# Altium schematic symbol library OpAmp比较器.SchLib: 515 symbols (part 2 of 3)
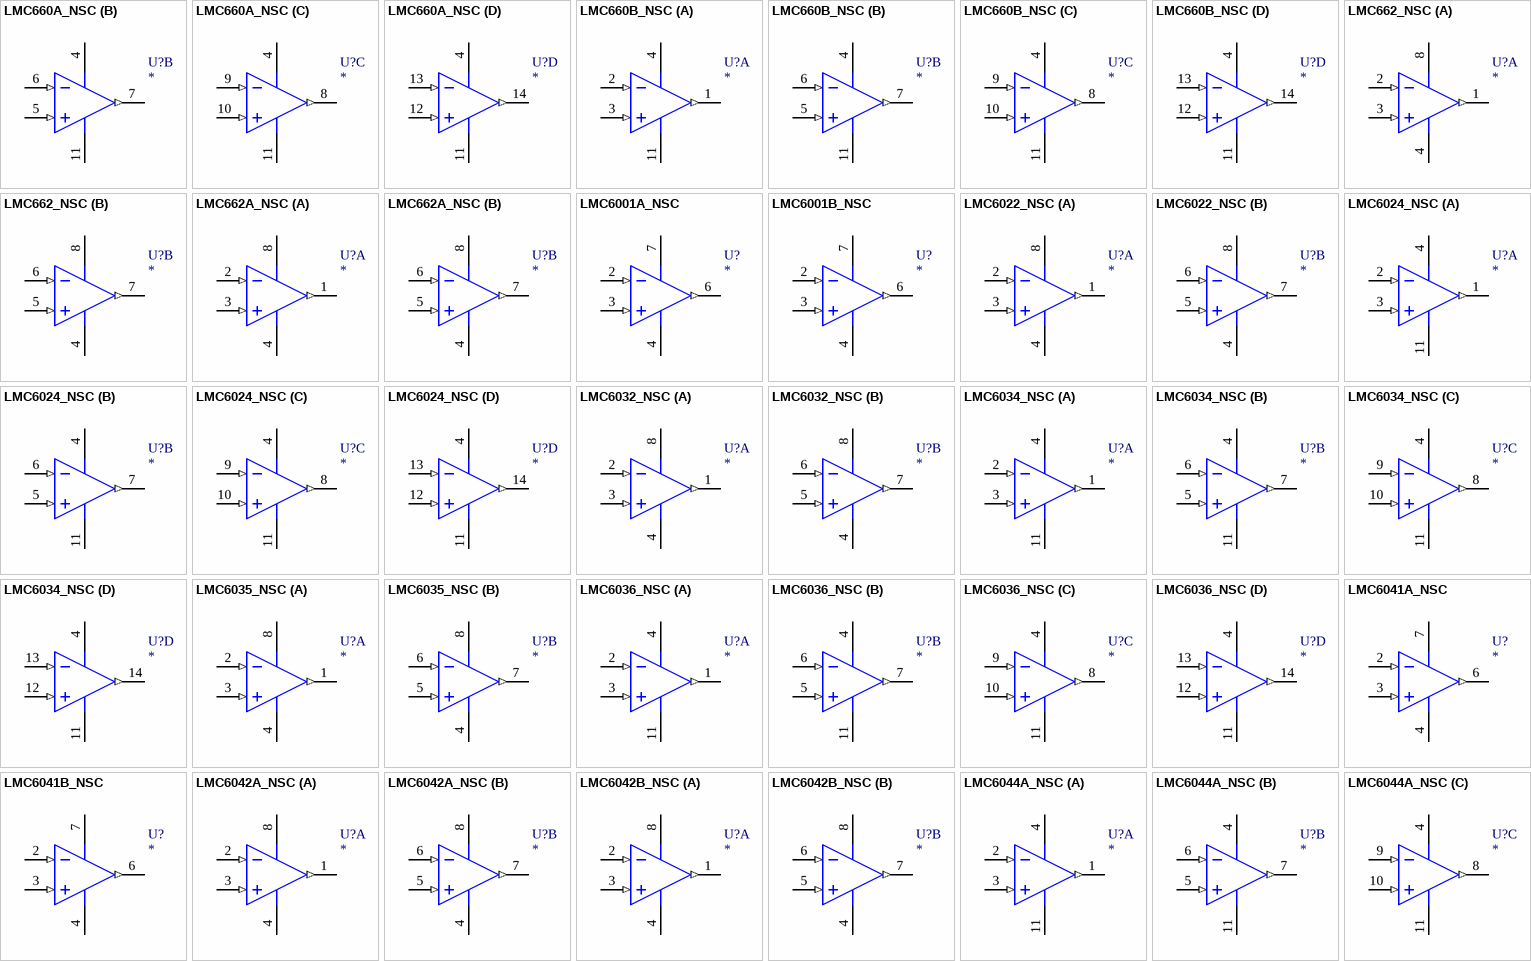
[diagram p24: symbols LMC660A_NSC to LMC6044A_NSC]

## LMC662A_NSC
designator U?
Fast Settling Dual Operational Amplifier
footprint DIP-8
simulation model LMC662A_NSC (SUBCKT)
part A pins: 1 OUT1 (out), 2 IN1- (in), 3 IN1+ (in), 4 V- (power), 8 V+ (power)
part B pins: 4 V- (power), 5 IN2+ (in), 6 IN2- (in), 7 OUT2 (out), 8 V+ (power)

## LMC6001A_NSC
designator U?
Precision CMOS Single Micropower Operational Amplifier; Text Field6: Pins 1, 5 and 8 are N.C.
footprint DIP-8
simulation model LMC6001A_NSC (SUBCKT)
pins: 2 IN- (in), 3 IN+ (in), 4 -VS (power), 6 OUT (out), 7 +VS (power)

## LMC6001B_NSC
designator U?
Precision CMOS Single Micropower Operational Amplifier; Text Field6: Pins 1, 5 and 8 are N.C.
footprint DIP-8
simulation model LMC6001B_NSC (SUBCKT)
pins: 2 IN- (in), 3 IN+ (in), 4 -VS (power), 6 OUT (out), 7 +VS (power)

## LMC6022_NSC
designator U?
Fast Settling Dual Operational Amplifier
footprint DIP-8
simulation model LMC6022_NSC (SUBCKT)
part A pins: 1 OUT1 (out), 2 IN1- (in), 3 IN1+ (in), 4 V- (power), 8 V+ (power)
part B pins: 4 V- (power), 5 IN2+ (in), 6 IN2- (in), 7 OUT2 (out), 8 V+ (power)

## LMC6024_NSC
designator U?
Low Power Quad Operational Amplifier
footprint DIP-14
simulation model LMC6024_NSC (SUBCKT)
part A pins: 1 1 OUT (out), 2 1 IN- (in), 3 1 IN+ (in), 4 VCC (power), 11 VEE (power)
part B pins: 4 VCC (power), 5 2 IN+ (in), 6 2 IN- (in), 7 2 OUT (out), 11 VEE (power)
part C pins: 4 VCC (power), 8 3 OUT (out), 9 3 IN- (in), 10 3 IN+ (in), 11 VEE (power)
part D pins: 4 VCC (power), 11 VEE (power), 12 4 IN+ (in), 13 4 IN- (in), 14 4 OUT (out)

## LMC6032_NSC
designator U?
CMOS Dual Rail-to-Rail Input & Output Operational Amplifier
footprint DIP-8
simulation model LMC6032_NSC (SUBCKT)
part A pins: 1 OUT1 (out), 2 IN-1 (in), 3 IN+1 (in), 4 GND (power), 8 VDD (power)
part B pins: 4 GND (power), 5 IN+2 (in), 6 IN-2 (in), 7 OUT2 (out), 8 VDD (power)

## LMC6034_NSC
designator U?
Low Power Quad Operational Amplifier
footprint DIP-14
simulation model LMC6034_NSC (SUBCKT)
part A pins: 1 1 OUT (out), 2 1 IN- (in), 3 1 IN+ (in), 4 VCC (power), 11 VEE (power)
part B pins: 4 VCC (power), 5 2 IN+ (in), 6 2 IN- (in), 7 2 OUT (out), 11 VEE (power)
part C pins: 4 VCC (power), 8 3 OUT (out), 9 3 IN- (in), 10 3 IN+ (in), 11 VEE (power)
part D pins: 4 VCC (power), 11 VEE (power), 12 4 IN+ (in), 13 4 IN- (in), 14 4 OUT (out)

## LMC6035_NSC
designator U?
Dual Low Power 2.7V Single Supply CMOS Operational Amplifier
simulation model LMC6035_NSC (SUBCKT)
part A pins: 1 OUT (out), 2 IN- (in), 3 IN+ (in), 4 VEE (power), 8 VCC (power)
part B pins: 4 VEE (power), 5 IN+ (in), 6 IN- (in), 7 OUT (out), 8 VCC (power)

## LMC6036_NSC
designator U?
Quad Low Power 2.7V Single Supply CMOS Operational Amplifier
simulation model LMC6036_NSC (SUBCKT)
part A pins: 1 OUT (out), 2 IN- (in), 3 IN+ (in), 4 VCC (power), 11 VEE (power)
part B pins: 4 VCC (power), 5 IN+ (in), 6 IN- (in), 7 OUT (out), 11 VEE (power)
part C pins: 4 VCC (power), 8 OUT (out), 9 IN- (in), 10 IN+ (in), 11 VEE (power)
part D pins: 4 VCC (power), 11 VEE (power), 12 IN+ (in), 13 IN- (in), 14 OUT (out)

## LMC6041A_NSC
designator U?
Low Power Operational Amplifier with Rail-to-Rail Input & Output; Text Field6: Pins 1, 5 and 8 are N.C.
footprint DIP-8
simulation model LMC6041A_NSC (SUBCKT)
pins: 2 IN- (in), 3 IN+ (in), 4 VSS- (power), 6 OUT (out), 7 VSS+ (power)

## LMC6041B_NSC
designator U?
Low Power Operational Amplifier with Rail-to-Rail Input & Output; Text Field6: Pins 1, 5 and 8 are N.C.
footprint DIP-8
simulation model LMC6041B_NSC (SUBCKT)
pins: 2 IN- (in), 3 IN+ (in), 4 VSS- (power), 6 OUT (out), 7 VSS+ (power)

## LMC6042A_NSC
designator U?
Fast Settling Dual Operational Amplifier
footprint DIP-8
simulation model LMC6042A_NSC (SUBCKT)
part A pins: 1 OUT1 (out), 2 IN1- (in), 3 IN1+ (in), 4 V- (power), 8 V+ (power)
part B pins: 4 V- (power), 5 IN2+ (in), 6 IN2- (in), 7 OUT2 (out), 8 V+ (power)

## LMC6042B_NSC
designator U?
Fast Settling Dual Operational Amplifier
footprint DIP-8
simulation model LMC6042B_NSC (SUBCKT)
part A pins: 1 OUT1 (out), 2 IN1- (in), 3 IN1+ (in), 4 V- (power), 8 V+ (power)
part B pins: 4 V- (power), 5 IN2+ (in), 6 IN2- (in), 7 OUT2 (out), 8 V+ (power)

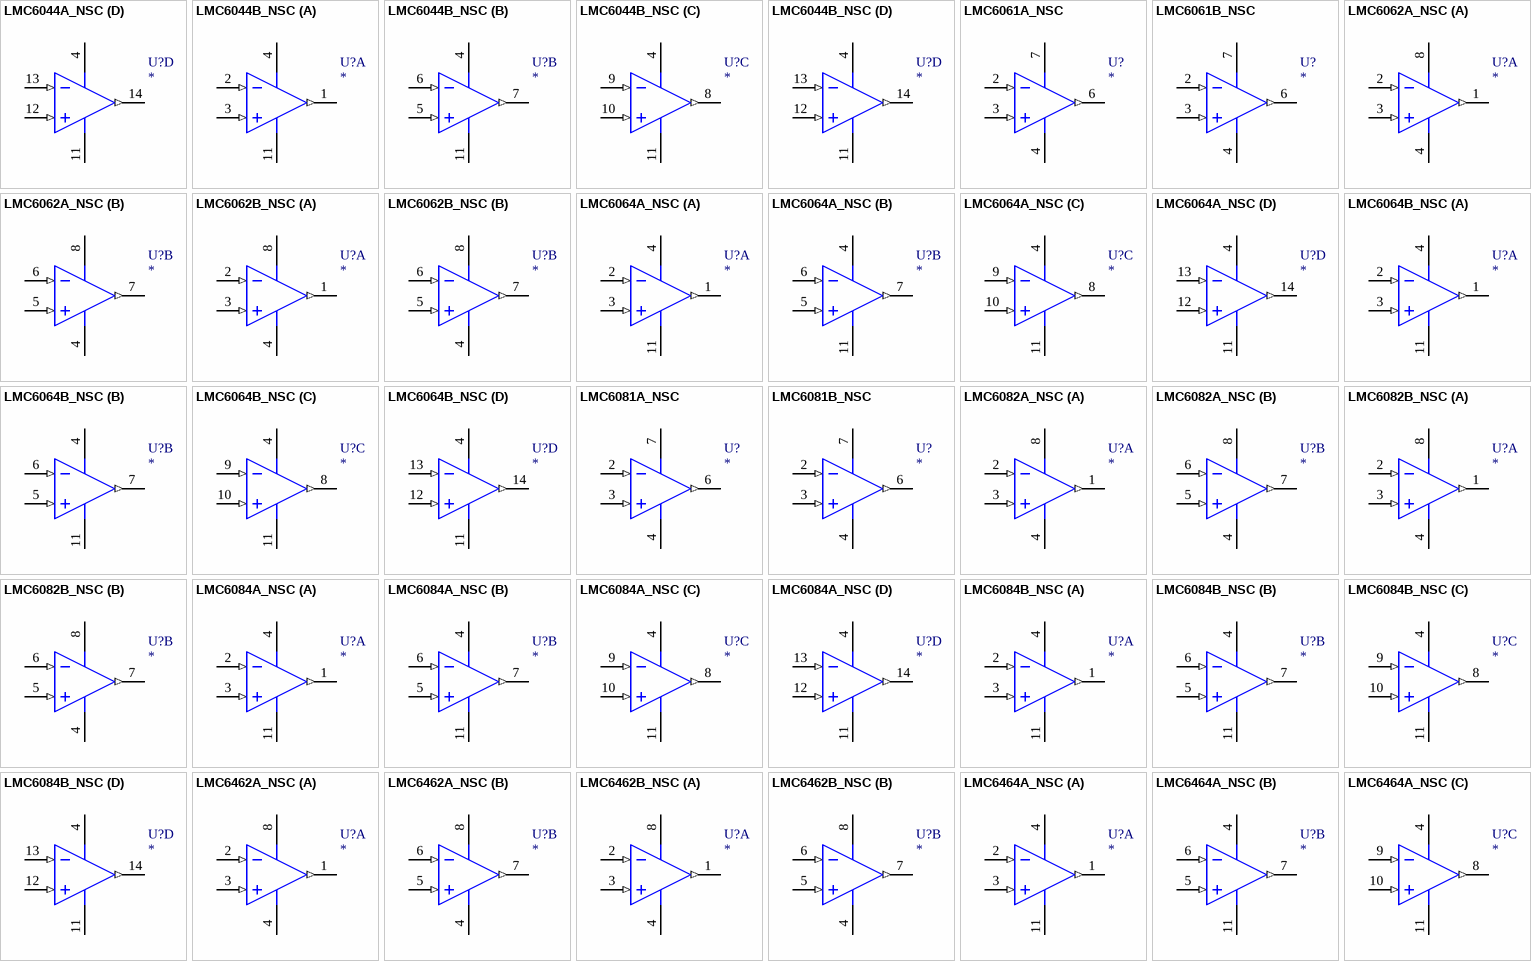
[diagram p8: symbols LMC6044A_NSC to LMC6464A_NSC]

## LMC6044A_NSC
designator U?
Low Power Quad Operational Amplifier
footprint DIP-14
simulation model LMC6044A_NSC (SUBCKT)
part A pins: 1 1 OUT (out), 2 1 IN- (in), 3 1 IN+ (in), 4 VCC (power), 11 VEE (power)
part B pins: 4 VCC (power), 5 2 IN+ (in), 6 2 IN- (in), 7 2 OUT (out), 11 VEE (power)
part C pins: 4 VCC (power), 8 3 OUT (out), 9 3 IN- (in), 10 3 IN+ (in), 11 VEE (power)
part D pins: 4 VCC (power), 11 VEE (power), 12 4 IN+ (in), 13 4 IN- (in), 14 4 OUT (out)

## LMC6044B_NSC
designator U?
Low Power Quad Operational Amplifier
footprint DIP-14
simulation model LMC6044B_NSC (SUBCKT)
part A pins: 1 1 OUT (out), 2 1 IN- (in), 3 1 IN+ (in), 4 VCC (power), 11 VEE (power)
part B pins: 4 VCC (power), 5 2 IN+ (in), 6 2 IN- (in), 7 2 OUT (out), 11 VEE (power)
part C pins: 4 VCC (power), 8 3 OUT (out), 9 3 IN- (in), 10 3 IN+ (in), 11 VEE (power)
part D pins: 4 VCC (power), 11 VEE (power), 12 4 IN+ (in), 13 4 IN- (in), 14 4 OUT (out)

## LMC6061A_NSC
designator U?
Precision CMOS Single Micropower Operational Amplifier; Text Field6: Pins 1, 5 and 8 are N.C.
footprint DIP-8
simulation model LMC6061A_NSC (SUBCKT)
pins: 2 IN- (in), 3 IN+ (in), 4 -VS (power), 6 OUT (out), 7 +VS (power)

## LMC6061B_NSC
designator U?
Precision CMOS Single Micropower Operational Amplifier; Text Field6: Pins 1, 5 and 8 are N.C.
footprint DIP-8
simulation model LMC6061B_NSC (SUBCKT)
pins: 2 IN- (in), 3 IN+ (in), 4 -VS (power), 6 OUT (out), 7 +VS (power)

## LMC6062A_NSC
designator U?
Fast Settling Dual Operational Amplifier
footprint DIP-8
simulation model LMC6062A_NSC (SUBCKT)
part A pins: 1 OUT1 (out), 2 IN1- (in), 3 IN1+ (in), 4 V- (power), 8 V+ (power)
part B pins: 4 V- (power), 5 IN2+ (in), 6 IN2- (in), 7 OUT2 (out), 8 V+ (power)

## LMC6062B_NSC
designator U?
Fast Settling Dual Operational Amplifier
footprint DIP-8
simulation model LMC6062B_NSC (SUBCKT)
part A pins: 1 OUT1 (out), 2 IN1- (in), 3 IN1+ (in), 4 V- (power), 8 V+ (power)
part B pins: 4 V- (power), 5 IN2+ (in), 6 IN2- (in), 7 OUT2 (out), 8 V+ (power)

## LMC6064A_NSC
designator U?
Low Power Quad Operational Amplifier
footprint DIP-14
simulation model LMC6064A_NSC (SUBCKT)
part A pins: 1 1 OUT (out), 2 1 IN- (in), 3 1 IN+ (in), 4 VCC (power), 11 VEE (power)
part B pins: 4 VCC (power), 5 2 IN+ (in), 6 2 IN- (in), 7 2 OUT (out), 11 VEE (power)
part C pins: 4 VCC (power), 8 3 OUT (out), 9 3 IN- (in), 10 3 IN+ (in), 11 VEE (power)
part D pins: 4 VCC (power), 11 VEE (power), 12 4 IN+ (in), 13 4 IN- (in), 14 4 OUT (out)

## LMC6064B_NSC
designator U?
Low Power Quad Operational Amplifier
footprint DIP-14
simulation model LMC6064B_NSC (SUBCKT)
part A pins: 1 1 OUT (out), 2 1 IN- (in), 3 1 IN+ (in), 4 VCC (power), 11 VEE (power)
part B pins: 4 VCC (power), 5 2 IN+ (in), 6 2 IN- (in), 7 2 OUT (out), 11 VEE (power)
part C pins: 4 VCC (power), 8 3 OUT (out), 9 3 IN- (in), 10 3 IN+ (in), 11 VEE (power)
part D pins: 4 VCC (power), 11 VEE (power), 12 4 IN+ (in), 13 4 IN- (in), 14 4 OUT (out)

## LMC6081A_NSC
designator U?
Precision CMOS Single Micropower Operational Amplifier; Text Field6: Pins 1, 5 and 8 are N.C.
footprint DIP-8
simulation model LMC6081A_NSC (SUBCKT)
pins: 2 IN- (in), 3 IN+ (in), 4 -VS (power), 6 OUT (out), 7 +VS (power)

## LMC6081B_NSC
designator U?
Precision CMOS Single Micropower Operational Amplifier; Text Field6: Pins 1, 5 and 8 are N.C.
footprint DIP-8
simulation model LMC6081B_NSC (SUBCKT)
pins: 2 IN- (in), 3 IN+ (in), 4 -VS (power), 6 OUT (out), 7 +VS (power)

## LMC6082A_NSC
designator U?
CMOS Dual Rail-to-Rail Input & Output Operational Amplifier
footprint DIP-8
simulation model LMC6082A_NSC (SUBCKT)
part A pins: 1 OUT1 (out), 2 IN-1 (in), 3 IN+1 (in), 4 GND (power), 8 VDD (power)
part B pins: 4 GND (power), 5 IN+2 (in), 6 IN-2 (in), 7 OUT2 (out), 8 VDD (power)

## LMC6082B_NSC
designator U?
CMOS Dual Rail-to-Rail Input & Output Operational Amplifier
footprint DIP-8
simulation model LMC6082B_NSC (SUBCKT)
part A pins: 1 OUT1 (out), 2 IN-1 (in), 3 IN+1 (in), 4 GND (power), 8 VDD (power)
part B pins: 4 GND (power), 5 IN+2 (in), 6 IN-2 (in), 7 OUT2 (out), 8 VDD (power)

## LMC6084A_NSC
designator U?
Low Power Quad Operational Amplifier
footprint DIP-14
simulation model LMC6084A_NSC (SUBCKT)
part A pins: 1 1 OUT (out), 2 1 IN- (in), 3 1 IN+ (in), 4 VCC (power), 11 VEE (power)
part B pins: 4 VCC (power), 5 2 IN+ (in), 6 2 IN- (in), 7 2 OUT (out), 11 VEE (power)
part C pins: 4 VCC (power), 8 3 OUT (out), 9 3 IN- (in), 10 3 IN+ (in), 11 VEE (power)
part D pins: 4 VCC (power), 11 VEE (power), 12 4 IN+ (in), 13 4 IN- (in), 14 4 OUT (out)

## LMC6084B_NSC
designator U?
Low Power Quad Operational Amplifier
footprint DIP-14
simulation model LMC6084B_NSC (SUBCKT)
part A pins: 1 1 OUT (out), 2 1 IN- (in), 3 1 IN+ (in), 4 VCC (power), 11 VEE (power)
part B pins: 4 VCC (power), 5 2 IN+ (in), 6 2 IN- (in), 7 2 OUT (out), 11 VEE (power)
part C pins: 4 VCC (power), 8 3 OUT (out), 9 3 IN- (in), 10 3 IN+ (in), 11 VEE (power)
part D pins: 4 VCC (power), 11 VEE (power), 12 4 IN+ (in), 13 4 IN- (in), 14 4 OUT (out)

## LMC6462A_NSC
designator U?
Fast Settling Dual Operational Amplifier
footprint DIP-8
simulation model LMC6462A_NSC (SUBCKT)
part A pins: 1 OUT1 (out), 2 IN1- (in), 3 IN1+ (in), 4 V- (power), 8 V+ (power)
part B pins: 4 V- (power), 5 IN2+ (in), 6 IN2- (in), 7 OUT2 (out), 8 V+ (power)

## LMC6462B_NSC
designator U?
Fast Settling Dual Operational Amplifier
footprint DIP-8
simulation model LMC6462B_NSC (SUBCKT)
part A pins: 1 OUT1 (out), 2 IN1- (in), 3 IN1+ (in), 4 V- (power), 8 V+ (power)
part B pins: 4 V- (power), 5 IN2+ (in), 6 IN2- (in), 7 OUT2 (out), 8 V+ (power)

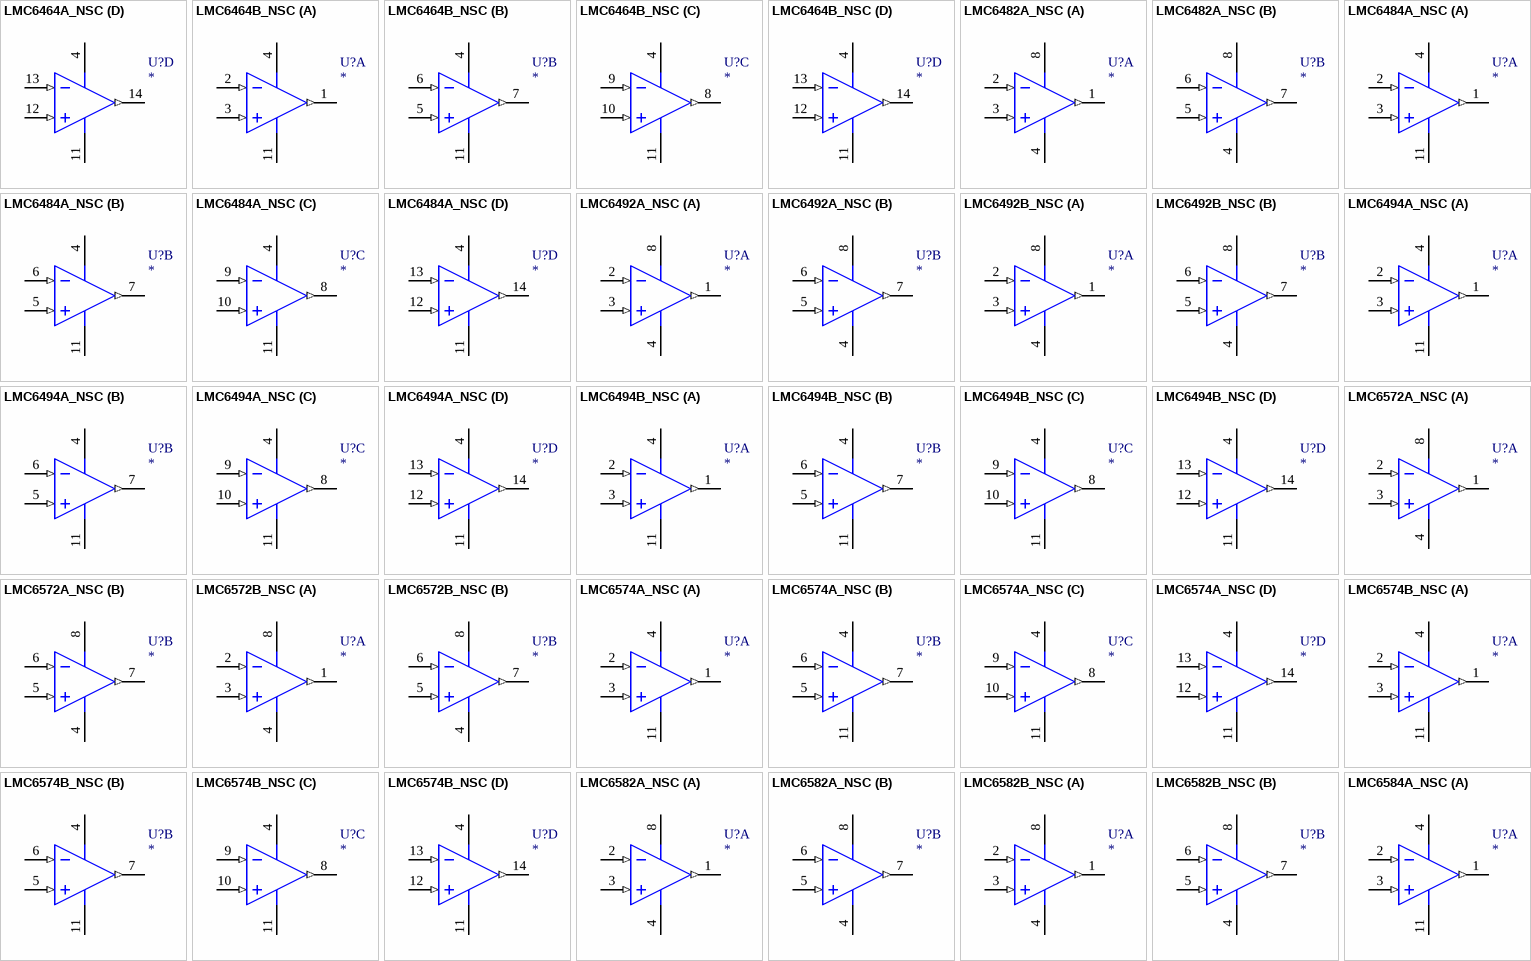
[diagram p9: symbols LMC6464A_NSC to LMC6584A_NSC]

## LMC6464A_NSC
designator U?
Low Power Quad Operational Amplifier
footprint DIP-14
simulation model LMC6464A_NSC (SUBCKT)
part A pins: 1 1 OUT (out), 2 1 IN- (in), 3 1 IN+ (in), 4 VCC (power), 11 VEE (power)
part B pins: 4 VCC (power), 5 2 IN+ (in), 6 2 IN- (in), 7 2 OUT (out), 11 VEE (power)
part C pins: 4 VCC (power), 8 3 OUT (out), 9 3 IN- (in), 10 3 IN+ (in), 11 VEE (power)
part D pins: 4 VCC (power), 11 VEE (power), 12 4 IN+ (in), 13 4 IN- (in), 14 4 OUT (out)

## LMC6464B_NSC
designator U?
Low Power Quad Operational Amplifier
footprint DIP-14
simulation model LMC6464B_NSC (SUBCKT)
part A pins: 1 1 OUT (out), 2 1 IN- (in), 3 1 IN+ (in), 4 VCC (power), 11 VEE (power)
part B pins: 4 VCC (power), 5 2 IN+ (in), 6 2 IN- (in), 7 2 OUT (out), 11 VEE (power)
part C pins: 4 VCC (power), 8 3 OUT (out), 9 3 IN- (in), 10 3 IN+ (in), 11 VEE (power)
part D pins: 4 VCC (power), 11 VEE (power), 12 4 IN+ (in), 13 4 IN- (in), 14 4 OUT (out)

## LMC6482A_NSC
designator U?
CMOS Dual Rail-to-Rail Input & Output Operational Amplifier
footprint DIP-8
simulation model LMC6482A_NSC (SUBCKT)
part A pins: 1 OUT1 (out), 2 IN-1 (in), 3 IN+1 (in), 4 GND (power), 8 VDD (power)
part B pins: 4 GND (power), 5 IN+2 (in), 6 IN-2 (in), 7 OUT2 (out), 8 VDD (power)

## LMC6484A_NSC
designator U?
Low Power Quad Operational Amplifier
footprint DIP-14
simulation model LMC6484A_NSC (SUBCKT)
part A pins: 1 1 OUT (out), 2 1 IN- (in), 3 1 IN+ (in), 4 VCC (power), 11 VEE (power)
part B pins: 4 VCC (power), 5 2 IN+ (in), 6 2 IN- (in), 7 2 OUT (out), 11 VEE (power)
part C pins: 4 VCC (power), 8 3 OUT (out), 9 3 IN- (in), 10 3 IN+ (in), 11 VEE (power)
part D pins: 4 VCC (power), 11 VEE (power), 12 4 IN+ (in), 13 4 IN- (in), 14 4 OUT (out)

## LMC6492A_NSC
designator U?
CMOS Dual Rail-to-Rail Input & Output Operational Amplifier
footprint DIP-8
simulation model LMC6492A_NSC (SUBCKT)
part A pins: 1 OUT1 (out), 2 IN-1 (in), 3 IN+1 (in), 4 GND (power), 8 VDD (power)
part B pins: 4 GND (power), 5 IN+2 (in), 6 IN-2 (in), 7 OUT2 (out), 8 VDD (power)

## LMC6492B_NSC
designator U?
CMOS Dual Rail-to-Rail Input & Output Operational Amplifier
footprint DIP-8
simulation model LMC6492B_NSC (SUBCKT)
part A pins: 1 OUT1 (out), 2 IN-1 (in), 3 IN+1 (in), 4 GND (power), 8 VDD (power)
part B pins: 4 GND (power), 5 IN+2 (in), 6 IN-2 (in), 7 OUT2 (out), 8 VDD (power)

## LMC6494A_NSC
designator U?
Low Power Quad Operational Amplifier
footprint DIP-14
simulation model LMC6494A_NSC (SUBCKT)
part A pins: 1 1 OUT (out), 2 1 IN- (in), 3 1 IN+ (in), 4 VCC (power), 11 VEE (power)
part B pins: 4 VCC (power), 5 2 IN+ (in), 6 2 IN- (in), 7 2 OUT (out), 11 VEE (power)
part C pins: 4 VCC (power), 8 3 OUT (out), 9 3 IN- (in), 10 3 IN+ (in), 11 VEE (power)
part D pins: 4 VCC (power), 11 VEE (power), 12 4 IN+ (in), 13 4 IN- (in), 14 4 OUT (out)

## LMC6494B_NSC
designator U?
Low Power Quad Operational Amplifier
footprint DIP-14
simulation model LMC6494B_NSC (SUBCKT)
part A pins: 1 1 OUT (out), 2 1 IN- (in), 3 1 IN+ (in), 4 VCC (power), 11 VEE (power)
part B pins: 4 VCC (power), 5 2 IN+ (in), 6 2 IN- (in), 7 2 OUT (out), 11 VEE (power)
part C pins: 4 VCC (power), 8 3 OUT (out), 9 3 IN- (in), 10 3 IN+ (in), 11 VEE (power)
part D pins: 4 VCC (power), 11 VEE (power), 12 4 IN+ (in), 13 4 IN- (in), 14 4 OUT (out)

## LMC6572A_NSC
designator U?
Fast Settling Dual Operational Amplifier
footprint DIP-8
simulation model LMC6572A_NSC (SUBCKT)
part A pins: 1 OUT1 (out), 2 IN1- (in), 3 IN1+ (in), 4 V- (power), 8 V+ (power)
part B pins: 4 V- (power), 5 IN2+ (in), 6 IN2- (in), 7 OUT2 (out), 8 V+ (power)

## LMC6572B_NSC
designator U?
Fast Settling Dual Operational Amplifier
footprint DIP-8
simulation model LMC6572B_NSC (SUBCKT)
part A pins: 1 OUT1 (out), 2 IN1- (in), 3 IN1+ (in), 4 V- (power), 8 V+ (power)
part B pins: 4 V- (power), 5 IN2+ (in), 6 IN2- (in), 7 OUT2 (out), 8 V+ (power)

## LMC6574A_NSC
designator U?
Low Power Quad Operational Amplifier
footprint DIP-14
simulation model LMC6574A_NSC (SUBCKT)
part A pins: 1 1 OUT (out), 2 1 IN- (in), 3 1 IN+ (in), 4 VCC (power), 11 VEE (power)
part B pins: 4 VCC (power), 5 2 IN+ (in), 6 2 IN- (in), 7 2 OUT (out), 11 VEE (power)
part C pins: 4 VCC (power), 8 3 OUT (out), 9 3 IN- (in), 10 3 IN+ (in), 11 VEE (power)
part D pins: 4 VCC (power), 11 VEE (power), 12 4 IN+ (in), 13 4 IN- (in), 14 4 OUT (out)

## LMC6574B_NSC
designator U?
Low Power Quad Operational Amplifier
footprint DIP-14
simulation model LMC6574B_NSC (SUBCKT)
part A pins: 1 1 OUT (out), 2 1 IN- (in), 3 1 IN+ (in), 4 VCC (power), 11 VEE (power)
part B pins: 4 VCC (power), 5 2 IN+ (in), 6 2 IN- (in), 7 2 OUT (out), 11 VEE (power)
part C pins: 4 VCC (power), 8 3 OUT (out), 9 3 IN- (in), 10 3 IN+ (in), 11 VEE (power)
part D pins: 4 VCC (power), 11 VEE (power), 12 4 IN+ (in), 13 4 IN- (in), 14 4 OUT (out)

## LMC6582A_NSC
designator U?
CMOS Dual Rail-to-Rail Input & Output Operational Amplifier
footprint DIP-8
simulation model LMC6582A_NSC (SUBCKT)
part A pins: 1 OUT1 (out), 2 IN-1 (in), 3 IN+1 (in), 4 GND (power), 8 VDD (power)
part B pins: 4 GND (power), 5 IN+2 (in), 6 IN-2 (in), 7 OUT2 (out), 8 VDD (power)

## LMC6582B_NSC
designator U?
CMOS Dual Rail-to-Rail Input & Output Operational Amplifier
footprint DIP-8
simulation model LMC6582B_NSC (SUBCKT)
part A pins: 1 OUT1 (out), 2 IN-1 (in), 3 IN+1 (in), 4 GND (power), 8 VDD (power)
part B pins: 4 GND (power), 5 IN+2 (in), 6 IN-2 (in), 7 OUT2 (out), 8 VDD (power)

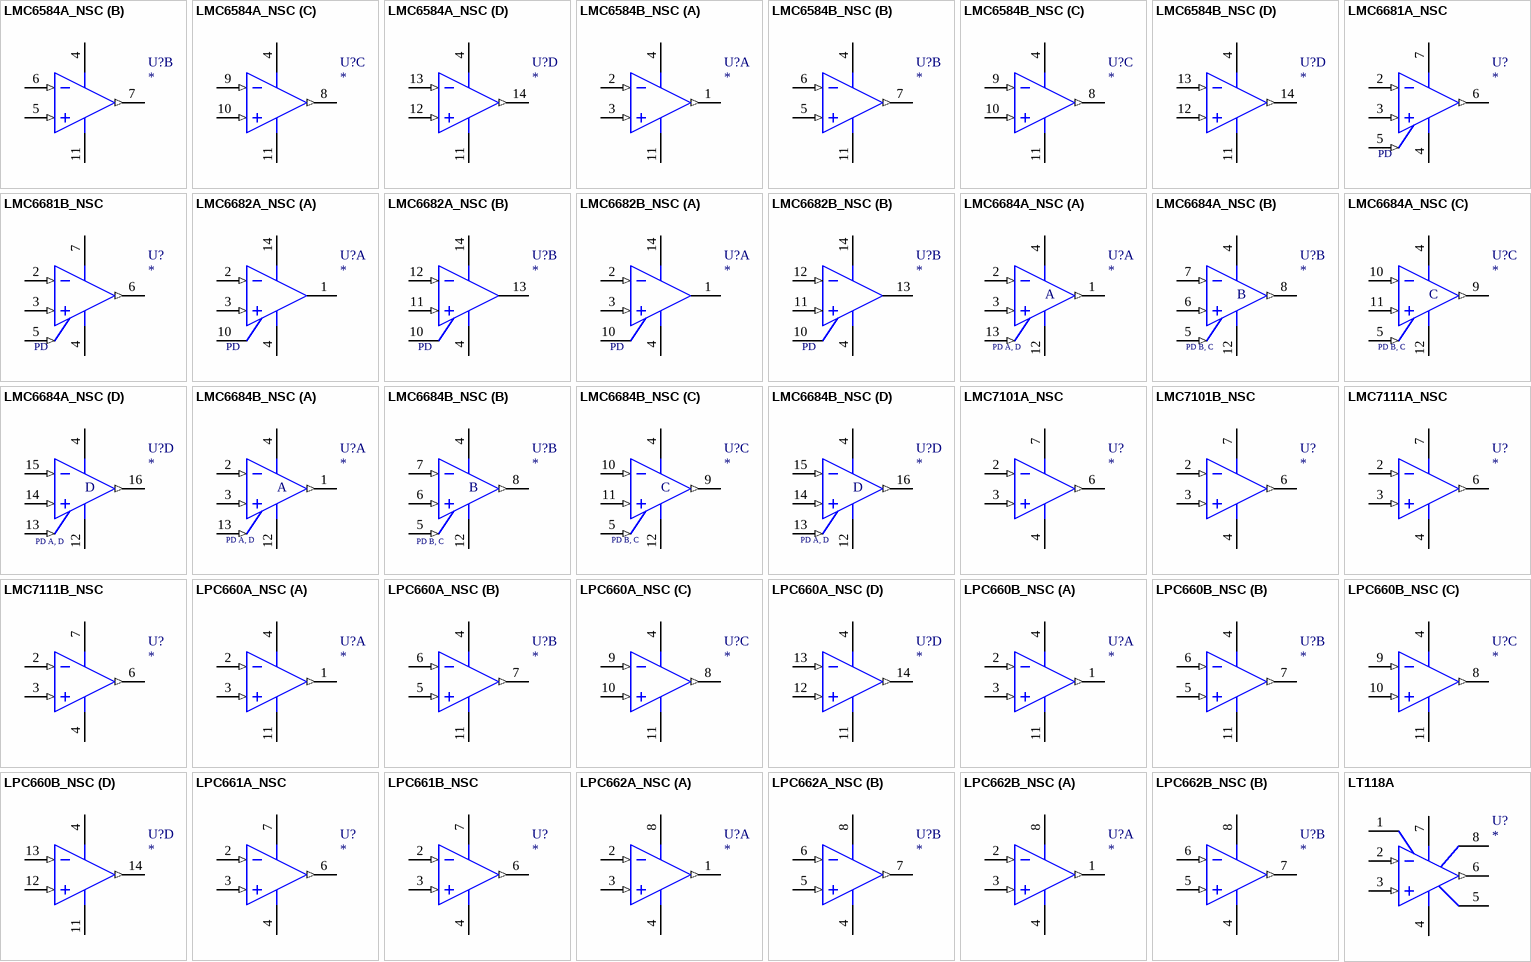
[diagram p10: symbols LMC6584A_NSC to LT118A]

## LMC6584A_NSC
designator U?
Low Power Quad Operational Amplifier
footprint SOP14
simulation model LMC6584A_NSC (SUBCKT)
part A pins: 1 1 OUT (out), 2 1 IN- (in), 3 1 IN+ (in), 4 VCC (power), 11 VEE (power)
part B pins: 4 VCC (power), 5 2 IN+ (in), 6 2 IN- (in), 7 2 OUT (out), 11 VEE (power)
part C pins: 4 VCC (power), 8 3 OUT (out), 9 3 IN- (in), 10 3 IN+ (in), 11 VEE (power)
part D pins: 4 VCC (power), 11 VEE (power), 12 4 IN+ (in), 13 4 IN- (in), 14 4 OUT (out)

## LMC6584B_NSC
designator U?
Low Power Quad Operational Amplifier
footprint SOP14
simulation model LMC6584B_NSC (SUBCKT)
part A pins: 1 1 OUT (out), 2 1 IN- (in), 3 1 IN+ (in), 4 VCC (power), 11 VEE (power)
part B pins: 4 VCC (power), 5 2 IN+ (in), 6 2 IN- (in), 7 2 OUT (out), 11 VEE (power)
part C pins: 4 VCC (power), 8 3 OUT (out), 9 3 IN- (in), 10 3 IN+ (in), 11 VEE (power)
part D pins: 4 VCC (power), 11 VEE (power), 12 4 IN+ (in), 13 4 IN- (in), 14 4 OUT (out)

## LMC6681A_NSC
designator U?
Single Low Voltage, Rail-to-Rail Input & Output CMOS Amplifier with PowerDown; Text Field6: Pins 1 and 8 are N.C.
footprint DIP-8
simulation model LMC6681A_NSC (SUBCKT)
pins: 2 -IN (in), 3 +IN (in), 4 V- (power), 5 PD (in), 6 OUT (out), 7 V+ (power)

## LMC6681B_NSC
designator U?
Single Low Voltage, Rail-to-Rail Input & Output CMOS Amplifier with PowerDown; Text Field6: Pins 1 and 8 are N.C.
footprint DIP-8
simulation model LMC6681B_NSC (SUBCKT)
pins: 2 -IN (in), 3 +IN (in), 4 V- (power), 5 PD (in), 6 OUT (out), 7 V+ (power)

## LMC6682A_NSC
designator U?
Dual Low Voltage, Rail-to-Rail Input & Output CMOS Amplifier with PowerDown; Text Field6: Pins 5, 6, 7, 8 and 9 are N.C.
footprint DIP-14
simulation model LMC6682A_NSC (SUBCKT)
part A pins: 1 OUTA (hiz), 2 IN A- (in), 3 IN A+ (in), 4 V- (power), 10 PD, 14 V+ (power)
part B pins: 4 V- (power), 10 PD, 11 IN B+ (in), 12 IN B- (in), 13 OUTB (hiz), 14 V+ (power)

## LMC6682B_NSC
designator U?
Dual Low Voltage, Rail-to-Rail Input & Output CMOS Amplifier with PowerDown; Text Field6: Pins 5, 6, 7, 8 and 9 are N.C.
footprint DIP-14
simulation model LMC6682B_NSC (SUBCKT)
part A pins: 1 OUTA (hiz), 2 IN A- (in), 3 IN A+ (in), 4 V- (power), 10 PD, 14 V+ (power)
part B pins: 4 V- (power), 10 PD, 11 IN B+ (in), 12 IN B- (in), 13 OUTB (hiz), 14 V+ (power)

## LMC6684A_NSC
designator U?
Quad Low Voltage, Rail-to-Rail Input and Output CMOS Amplifier with PowerDown
footprint DIP-16
simulation model LMC6684A_NSC (SUBCKT)
part A pins: 1 OUT A (out), 2 IN A- (in), 3 IN A+ (in), 4 V+ (power), 12 V- (power), 13 PDA (in)
part B pins: 4 V+ (power), 5 PDB (in), 6 IN B+ (in), 7 IN B- (in), 8 OUT B (out), 12 V- (power)
part C pins: 4 V+ (power), 5 PDB (in), 9 OUT C (out), 10 IN C- (in), 11 IN C+ (in), 12 V- (power)
part D pins: 4 V+ (power), 12 V- (power), 13 PDA (in), 14 IN D+ (in), 15 IN D- (in), 16 OUT D (out)
part A text: A; PD A, D
part B text: B; PD B, C
part C text: C; PD B, C
part D text: D; PD A, D

## LMC6684B_NSC
designator U?
Quad Low Voltage, Rail-to-Rail Input and Output CMOS Amplifier with PowerDown
footprint DIP-16
simulation model LMC6684B_NSC (SUBCKT)
part A pins: 1 OUT A (out), 2 IN A- (in), 3 IN A+ (in), 4 V+ (power), 12 V- (power), 13 PDA (in)
part B pins: 4 V+ (power), 5 PDB (in), 6 IN B+ (in), 7 IN B- (in), 8 OUT B (out), 12 V- (power)
part C pins: 4 V+ (power), 5 PDB (in), 9 OUT C (out), 10 IN C- (in), 11 IN C+ (in), 12 V- (power)
part D pins: 4 V+ (power), 12 V- (power), 13 PDA (in), 14 IN D+ (in), 15 IN D- (in), 16 OUT D (out)
part A text: A; PD A, D
part B text: B; PD B, C
part C text: C; PD B, C
part D text: D; PD A, D

## LMC7101A_NSC
designator U?
Low Power Operational Amplifier with Rail-to-Rail Input & Output; Text Field6: Pins 1, 5 and 8 are N.C.
footprint DIP-8
simulation model LMC7101A_NSC (SUBCKT)
pins: 2 IN- (in), 3 IN+ (in), 4 VSS- (power), 6 OUT (out), 7 VSS+ (power)

## LMC7101B_NSC
designator U?
Low Power Operational Amplifier with Rail-to-Rail Input & Output; Text Field6: Pins 1, 5 and 8 are N.C.
footprint DIP-8
simulation model LMC7101B_NSC (SUBCKT)
pins: 2 IN- (in), 3 IN+ (in), 4 VSS- (power), 6 OUT (out), 7 VSS+ (power)

## LMC7111A_NSC
designator U?
Precision CMOS Single Micropower Operational Amplifier; Text Field6: Pins 1, 5 and 8 are N.C.
footprint DIP-8
simulation model LMC7111A_NSC (SUBCKT)
pins: 2 IN- (in), 3 IN+ (in), 4 -VS (power), 6 OUT (out), 7 +VS (power)

## LMC7111B_NSC
designator U?
Precision CMOS Single Micropower Operational Amplifier; Text Field6: Pins 1, 5 and 8 are N.C.
footprint DIP-8
simulation model LMC7111B_NSC (SUBCKT)
pins: 2 IN- (in), 3 IN+ (in), 4 -VS (power), 6 OUT (out), 7 +VS (power)

## LPC660A_NSC
designator U?
Low Power Quad Operational Amplifier
footprint DIP-14
simulation model LPC660A_NSC (SUBCKT)
part A pins: 1 1 OUT (out), 2 1 IN- (in), 3 1 IN+ (in), 4 VCC (power), 11 VEE (power)
part B pins: 4 VCC (power), 5 2 IN+ (in), 6 2 IN- (in), 7 2 OUT (out), 11 VEE (power)
part C pins: 4 VCC (power), 8 3 OUT (out), 9 3 IN- (in), 10 3 IN+ (in), 11 VEE (power)
part D pins: 4 VCC (power), 11 VEE (power), 12 4 IN+ (in), 13 4 IN- (in), 14 4 OUT (out)

## LPC660B_NSC
designator U?
Low Power Quad Operational Amplifier
footprint DIP-14
simulation model LPC660B_NSC (SUBCKT)
part A pins: 1 1 OUT (out), 2 1 IN- (in), 3 1 IN+ (in), 4 VCC (power), 11 VEE (power)
part B pins: 4 VCC (power), 5 2 IN+ (in), 6 2 IN- (in), 7 2 OUT (out), 11 VEE (power)
part C pins: 4 VCC (power), 8 3 OUT (out), 9 3 IN- (in), 10 3 IN+ (in), 11 VEE (power)
part D pins: 4 VCC (power), 11 VEE (power), 12 4 IN+ (in), 13 4 IN- (in), 14 4 OUT (out)

## LPC661A_NSC
designator U?
Low Power Operational Amplifier with Rail-to-Rail Input & Output; Text Field6: Pins 1, 5 and 8 are N.C.
footprint DIP-8
simulation model LPC661A_NSC (SUBCKT)
pins: 2 IN- (in), 3 IN+ (in), 4 VSS- (power), 6 OUT (out), 7 VSS+ (power)

## LPC661B_NSC
designator U?
Low Power Operational Amplifier with Rail-to-Rail Input & Output; Text Field6: Pins 1, 5 and 8 are N.C.
footprint DIP-8
simulation model LPC661B_NSC (SUBCKT)
pins: 2 IN- (in), 3 IN+ (in), 4 VSS- (power), 6 OUT (out), 7 VSS+ (power)

## LPC662A_NSC
designator U?
Fast Settling Dual Operational Amplifier
footprint DIP-8
simulation model LPC662A_NSC (SUBCKT)
part A pins: 1 OUT1 (out), 2 IN1- (in), 3 IN1+ (in), 4 V- (power), 8 V+ (power)
part B pins: 4 V- (power), 5 IN2+ (in), 6 IN2- (in), 7 OUT2 (out), 8 V+ (power)

## LPC662B_NSC
designator U?
Fast Settling Dual Operational Amplifier
footprint DIP-8
simulation model LPC662B_NSC (SUBCKT)
part A pins: 1 OUT1 (out), 2 IN1- (in), 3 IN1+ (in), 4 V- (power), 8 V+ (power)
part B pins: 4 V- (power), 5 IN2+ (in), 6 IN2- (in), 7 OUT2 (out), 8 V+ (power)

## LT118A
designator U?
High Speed Operational Amplifier
simulation model LT118A (SUBCKT)
pins: 1 COMP 1, 2 -IN (in), 3 +IN (in), 4 V- (power), 5 COMP 3, 6 OUT (out), 7 V+ (power), 8 COMP 2

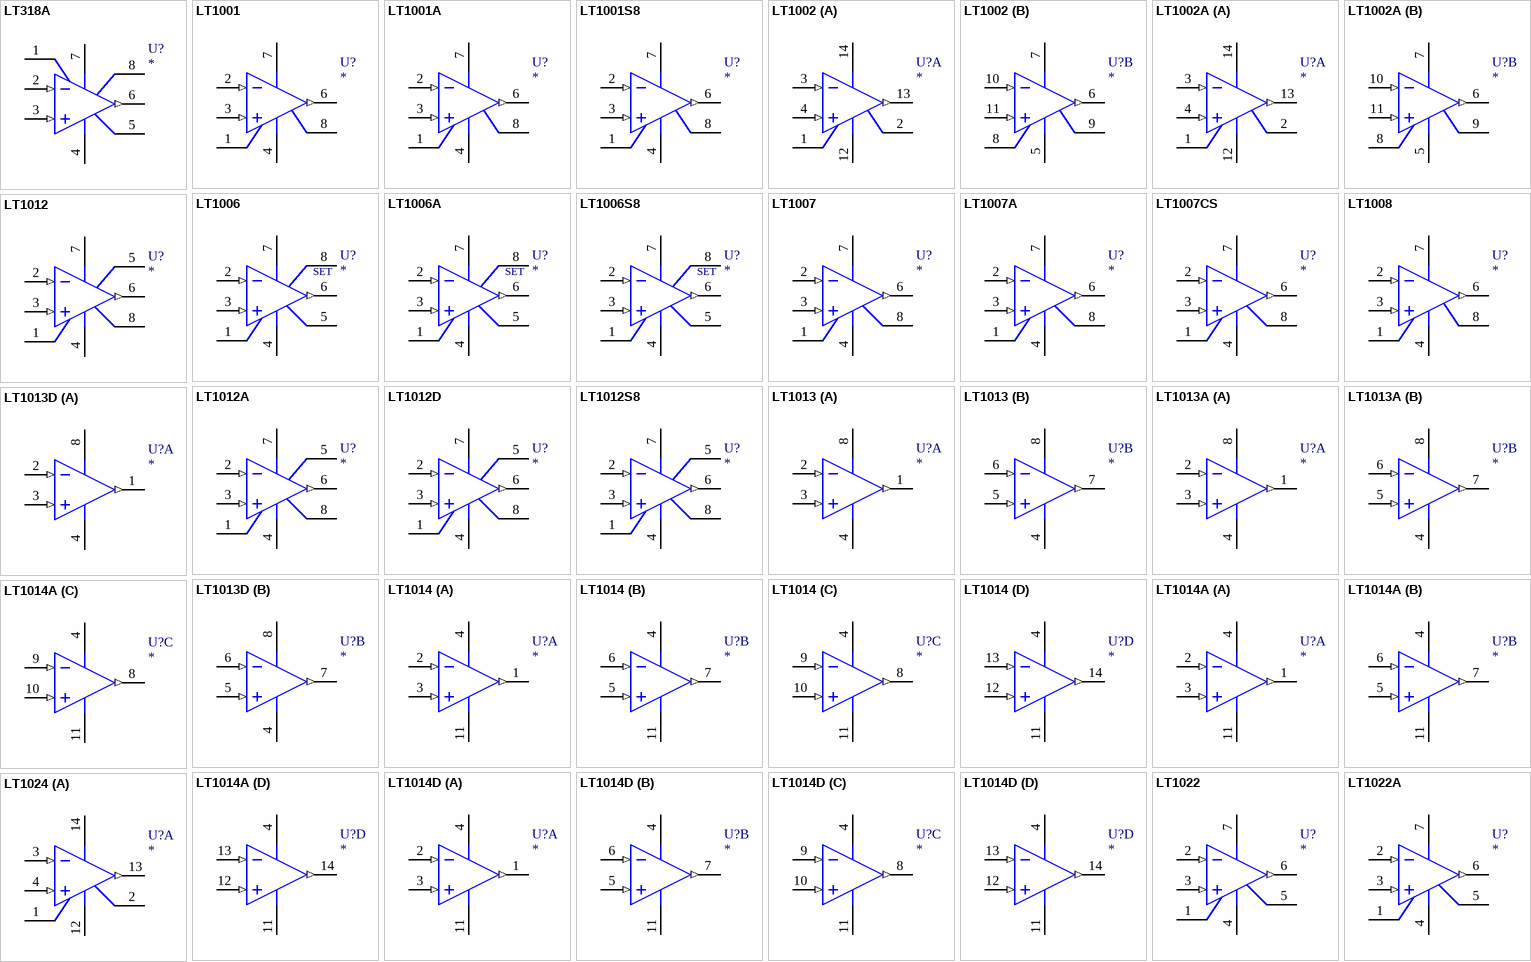
[diagram p11: symbols LT318A to LT1024]

## LT318A
designator U?
High Speed Operational Amplifier
simulation model LT318A (SUBCKT)
pins: 1 COMP 1, 2 -IN (in), 3 +IN (in), 4 V- (power), 5 COMP 3, 6 OUT (out), 7 V+ (power), 8 COMP 2

## LT1001
designator U?
Precision Operational Amplifier
simulation model LT1001 (SUBCKT)
pins: 1 TRIM, 2 -IN (in), 3 +IN (in), 4 V- (power), 6 OUT (out), 7 V+ (power), 8 TRIM

## LT1001A
designator U?
Precision Operational Amplifier
simulation model LT1001A (SUBCKT)
pins: 1 TRIM, 2 -IN (in), 3 +IN (in), 4 V- (power), 6 OUT (out), 7 V+ (power), 8 TRIM

## LT1001S8
designator U?
Precision Operational Amplifier
simulation model LT1001S8 (SUBCKT)
pins: 1 TRIM, 2 -IN (in), 3 +IN (in), 4 V- (power), 6 OUT (out), 7 V+ (power), 8 TRIM

## LT1002
designator U?
Dual, Matched Precision Operational Amplifier
simulation model LT1002 (SUBCKT)
part A pins: 1 NULL(A), 2 NULL(A), 3 -IN(A) (in), 4 +IN(A) (in), 12 V-(A) (power), 13 OUT(A) (out), 14 V+(A) (power)
part B pins: 5 V-(B) (power), 6 OUT(B) (out), 7 V+(B) (power), 8 NULL(B), 9 NULL(B), 10 -IN(B) (in), 11 +IN(B) (in)

## LT1002A
designator U?
Dual, Matched Precision Operational Amplifier
simulation model LT1002A (SUBCKT)
part A pins: 1 NULL(A), 2 NULL(A), 3 -IN(A) (in), 4 +IN(A) (in), 12 V-(A) (power), 13 OUT(A) (out), 14 V+(A) (power)
part B pins: 5 V-(B) (power), 6 OUT(B) (out), 7 V+(B) (power), 8 NULL(B), 9 NULL(B), 10 -IN(B) (in), 11 +IN(B) (in)

## LT1006
designator U?
Precision, Single Supply Operational Amplifier
simulation model LT1006 (SUBCKT)
pins: 1 TRIM, 2 -IN (in), 3 +IN (in), 4 V- (power), 5 TRIM, 6 OUT (out), 7 V+ (power), 8 SET

## LT1006A
designator U?
Precision, Single Supply Operational Amplifier
simulation model LT1006A (SUBCKT)
pins: 1 TRIM, 2 -IN (in), 3 +IN (in), 4 V- (power), 5 TRIM, 6 OUT (out), 7 V+ (power), 8 SET

## LT1006S8
designator U?
Precision, Single Supply Operational Amplifier
simulation model LT1006S8 (SUBCKT)
pins: 1 TRIM, 2 -IN (in), 3 +IN (in), 4 V- (power), 5 TRIM, 6 OUT (out), 7 V+ (power), 8 SET

## LT1007
designator U?
Low Noise, High Speed Precision Operational Amplifier
simulation model LT1007 (SUBCKT)
pins: 1 TRIM, 2 -IN (in), 3 +IN (in), 4 V- (power), 6 OUT (out), 7 V+ (power), 8 TRIM

## LT1007A
designator U?
Low Noise, High Speed Precision Operational Amplifier
simulation model LT1007A (SUBCKT)
pins: 1 TRIM, 2 -IN (in), 3 +IN (in), 4 V- (power), 6 OUT (out), 7 V+ (power), 8 TRIM

## LT1007CS
designator U?
Low Noise, High Speed Precision Operational Amplifier
simulation model LT1007CS (SUBCKT)
pins: 1 TRIM, 2 -IN (in), 3 +IN (in), 4 V- (power), 6 OUT (out), 7 V+ (power), 8 TRIM

## LT1008
designator U?
Picoamp Input Current, Microvolt Offset, Low Noise Op Amp; Text Field6: Pin 5 is not connected
simulation model LT1008 (SUBCKT)
pins: 1 COMP1, 2 IN- (in), 3 IN+ (in), 4 VEE (power), 6 OUT (out), 7 VCC (power), 8 COMP2

## LT1012
designator U?
Picoamp Input Current, Microvolt Offset, Low Noise Operational Amplifier
simulation model LT1012 (SUBCKT)
pins: 1 TRIM, 2 -IN (in), 3 +IN (in), 4 V- (power), 5 OVER COMP, 6 OUT (out), 7 V+ (power), 8 TRIM

## LT1012A
designator U?
Picoamp Input Current, Microvolt Offset, Low Noise Operational Amplifier
simulation model LT1012A (SUBCKT)
pins: 1 TRIM, 2 -IN (in), 3 +IN (in), 4 V- (power), 5 OVER COMP, 6 OUT (out), 7 V+ (power), 8 TRIM

## LT1012D
designator U?
Picoamp Input Current, Microvolt Offset, Low Noise Operational Amplifier
simulation model LT1012D (SUBCKT)
pins: 1 TRIM, 2 -IN (in), 3 +IN (in), 4 V- (power), 5 OVER COMP, 6 OUT (out), 7 V+ (power), 8 TRIM

## LT1012S8
designator U?
Picoamp Input Current, Microvolt Offset, Low Noise Operational Amplifier
simulation model LT1012S8 (SUBCKT)
pins: 1 TRIM, 2 -IN (in), 3 +IN (in), 4 V- (power), 5 OVER COMP, 6 OUT (out), 7 V+ (power), 8 TRIM

## LT1013
designator U?
Dual Precision Operational Amplifier
simulation model LT1013 (SUBCKT)
part A pins: 1 OUT A (out), 2 -IN A (in), 3 +IN A (in), 4 V- (power), 8 V+ (power)
part B pins: 4 V- (power), 5 +IN B (in), 6 -IN B (in), 7 OUT B (out), 8 V+ (power)

## LT1013A
designator U?
Dual Precision Operational Amplifier
simulation model LT1013A (SUBCKT)
part A pins: 1 OUT A (out), 2 -IN A (in), 3 +IN A (in), 4 V- (power), 8 V+ (power)
part B pins: 4 V- (power), 5 +IN B (in), 6 -IN B (in), 7 OUT B (out), 8 V+ (power)

## LT1013D
designator U?
Dual Precision Operational Amplifier
simulation model LT1013D (SUBCKT)
part A pins: 1 OUT A (out), 2 -IN A (in), 3 +IN A (in), 4 V- (power), 8 V+ (power)
part B pins: 4 V- (power), 5 +IN B (in), 6 -IN B (in), 7 OUT B (out), 8 V+ (power)

## LT1014
designator U?
Quad Precision Operational Amplifier
simulation model LT1014 (SUBCKT)
part A pins: 1 OUT A (out), 2 -IN A (in), 3 +IN A (in), 4 V+ (power), 11 V- (power)
part B pins: 4 V+ (power), 5 +IN B (in), 6 -IN B (in), 7 OUT B (out), 11 V- (power)
part C pins: 4 V+ (power), 8 OUT C (out), 9 -IN C (in), 10 +IN C (in), 11 V- (power)
part D pins: 4 V+ (power), 11 V- (power), 12 +IN D (in), 13 -IN D (in), 14 OUT D (out)

## LT1014A
designator U?
Quad Precision Operational Amplifier
simulation model LT1014A (SUBCKT)
part A pins: 1 OUT A (out), 2 -IN A (in), 3 +IN A (in), 4 V+ (power), 11 V- (power)
part B pins: 4 V+ (power), 5 +IN B (in), 6 -IN B (in), 7 OUT B (out), 11 V- (power)
part C pins: 4 V+ (power), 8 OUT C (out), 9 -IN C (in), 10 +IN C (in), 11 V- (power)
part D pins: 4 V+ (power), 11 V- (power), 12 +IN D (in), 13 -IN D (in), 14 OUT D (out)

## LT1014D
designator U?
Quad Precision Operational Amplifier
simulation model LT1014D (SUBCKT)
part A pins: 1 OUT A (out), 2 -IN A (in), 3 +IN A (in), 4 V+ (power), 11 V- (power)
part B pins: 4 V+ (power), 5 +IN B (in), 6 -IN B (in), 7 OUT B (out), 11 V- (power)
part C pins: 4 V+ (power), 8 OUT C (out), 9 -IN C (in), 10 +IN C (in), 11 V- (power)
part D pins: 4 V+ (power), 11 V- (power), 12 +IN D (in), 13 -IN D (in), 14 OUT D (out)

## LT1022
designator U?
High Speed, Precision JFET Input Operational Amplifier
simulation model LT1022 (SUBCKT)
pins: 1 BAL, 2 -IN (in), 3 +IN (in), 4 V- (power), 5 BAL, 6 OUT (out), 7 V+ (power)

## LT1022A
designator U?
High Speed, Precision JFET Input Operational Amplifier
simulation model LT1022A (SUBCKT)
pins: 1 BAL, 2 -IN (in), 3 +IN (in), 4 V- (power), 5 BAL, 6 OUT (out), 7 V+ (power)

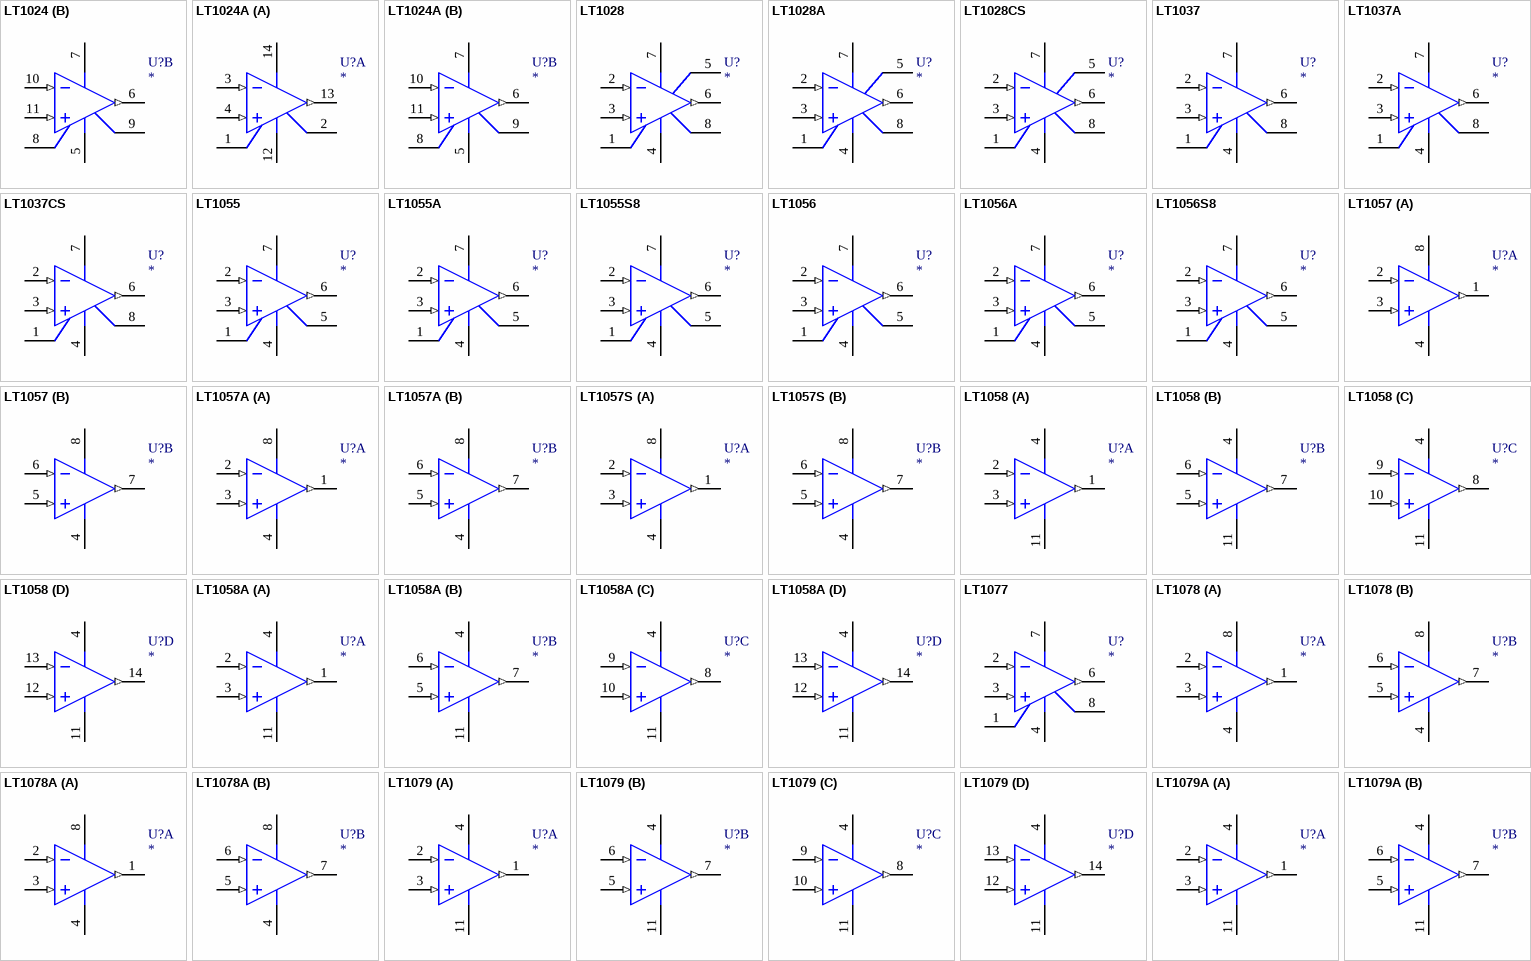
[diagram p12: symbols LT1024 to LT1079A]

## LT1024
designator U?
Dual, Matched Picoampere, Microvolt Input, Low Noise Operational Amplifier
simulation model LT1024 (SUBCKT)
part A pins: 1 NULL(A), 2 NULL(A), 3 -IN(A) (in), 4 +IN(A) (in), 12 V-(A) (power), 13 OUT(A) (out), 14 V+(A) (power)
part B pins: 5 V-(B) (power), 6 OUT(B) (out), 7 V+(B) (power), 8 NULL(B), 9 NULL(B), 10 -IN(B) (in), 11 +IN(B) (in)

## LT1024A
designator U?
Dual, Matched Picoampere, Microvolt Input, Low Noise Operational Amplifier
simulation model LT1024A (SUBCKT)
part A pins: 1 NULL(A), 2 NULL(A), 3 -IN(A) (in), 4 +IN(A) (in), 12 V-(A) (power), 13 OUT(A) (out), 14 V+(A) (power)
part B pins: 5 V-(B) (power), 6 OUT(B) (out), 7 V+(B) (power), 8 NULL(B), 9 NULL(B), 10 -IN(B) (in), 11 +IN(B) (in)

## LT1028
designator U?
Ultra-Low Noise Precision High Speed Operational Amplifier
simulation model LT1028 (SUBCKT)
pins: 1 TRIM, 2 -IN (in), 3 +IN (in), 4 V- (power), 5 OVER COMP, 6 OUT (out), 7 V+ (power), 8 TRIM

## LT1028A
designator U?
Ultra-Low Noise Precision High Speed Operational Amplifier
simulation model LT1028A (SUBCKT)
pins: 1 TRIM, 2 -IN (in), 3 +IN (in), 4 V- (power), 5 OVER COMP, 6 OUT (out), 7 V+ (power), 8 TRIM

## LT1028CS
designator U?
Ultra-Low Noise Precision High Speed Operational Amplifier
simulation model LT1028CS (SUBCKT)
pins: 1 TRIM, 2 -IN (in), 3 +IN (in), 4 V- (power), 5 OVER COMP, 6 OUT (out), 7 V+ (power), 8 TRIM

## LT1037
designator U?
Low Noise, High Speed Precision Operational Amplifier
simulation model LT1037 (SUBCKT)
pins: 1 TRIM, 2 -IN (in), 3 +IN (in), 4 V- (power), 6 OUT (out), 7 V+ (power), 8 TRIM

## LT1037A
designator U?
Low Noise, High Speed Precision Operational Amplifier
simulation model LT1037A (SUBCKT)
pins: 1 TRIM, 2 -IN (in), 3 +IN (in), 4 V- (power), 6 OUT (out), 7 V+ (power), 8 TRIM

## LT1037CS
designator U?
Low Noise, High Speed Precision Operational Amplifier
simulation model LT1037CS (SUBCKT)
pins: 1 TRIM, 2 -IN (in), 3 +IN (in), 4 V- (power), 6 OUT (out), 7 V+ (power), 8 TRIM

## LT1055
designator U?
Precision, High Speed, JFET Input Operational Amplifier
simulation model LT1055 (SUBCKT)
pins: 1 BAL, 2 -IN (in), 3 +IN (in), 4 V- (power), 5 BAL, 6 OUT (out), 7 V+ (power)

## LT1055A
designator U?
Precision, High Speed, JFET Input Operational Amplifier
simulation model LT1055A (SUBCKT)
pins: 1 BAL, 2 -IN (in), 3 +IN (in), 4 V- (power), 5 BAL, 6 OUT (out), 7 V+ (power)

## LT1055S8
designator U?
Precision, High Speed, JFET Input Operational Amplifier
simulation model LT1055S8 (SUBCKT)
pins: 1 BAL, 2 -IN (in), 3 +IN (in), 4 V- (power), 5 BAL, 6 OUT (out), 7 V+ (power)

## LT1056
designator U?
Precision, High Speed, JFET Input Operational Amplifier
simulation model LT1056 (SUBCKT)
pins: 1 BAL, 2 -IN (in), 3 +IN (in), 4 V- (power), 5 BAL, 6 OUT (out), 7 V+ (power)

## LT1056A
designator U?
Precision, High Speed, JFET Input Operational Amplifier
simulation model LT1056A (SUBCKT)
pins: 1 BAL, 2 -IN (in), 3 +IN (in), 4 V- (power), 5 BAL, 6 OUT (out), 7 V+ (power)

## LT1056S8
designator U?
Precision, High Speed, JFET Input Operational Amplifier
simulation model LT1056S8 (SUBCKT)
pins: 1 BAL, 2 -IN (in), 3 +IN (in), 4 V- (power), 5 BAL, 6 OUT (out), 7 V+ (power)

## LT1057
designator U?
Dual JFET Input Precision High Speed Operational Amplifier
simulation model LT1057 (SUBCKT)
part A pins: 1 OUT A (out), 2 -IN A (in), 3 +IN A (in), 4 V- (power), 8 V+ (power)
part B pins: 4 V- (power), 5 +IN B (in), 6 -IN B (in), 7 OUT B (out), 8 V+ (power)

## LT1057A
designator U?
Dual JFET Input Precision High Speed Operational Amplifier
simulation model LT1057A (SUBCKT)
part A pins: 1 OUT A (out), 2 -IN A (in), 3 +IN A (in), 4 V- (power), 8 V+ (power)
part B pins: 4 V- (power), 5 +IN B (in), 6 -IN B (in), 7 OUT B (out), 8 V+ (power)

## LT1057S
designator U?
Dual JFET Input Precision High Speed Operational Amplifier
simulation model LT1057S (SUBCKT)
part A pins: 1 OUT A (out), 2 -IN A (in), 3 +IN A (in), 4 V- (power), 8 V+ (power)
part B pins: 4 V- (power), 5 +IN B (in), 6 -IN B (in), 7 OUT B (out), 8 V+ (power)

## LT1058
designator U?
Quad JFET Input Precision High Speed Operational Amplifier
simulation model LT1058 (SUBCKT)
part A pins: 1 OUT A (out), 2 -IN A (in), 3 +IN A (in), 4 V+ (power), 11 V- (power)
part B pins: 4 V+ (power), 5 +IN B (in), 6 -IN B (in), 7 OUT B (out), 11 V- (power)
part C pins: 4 V+ (power), 8 OUT C (out), 9 -IN C (in), 10 +IN C (in), 11 V- (power)
part D pins: 4 V+ (power), 11 V- (power), 12 +IN D (in), 13 -IN D (in), 14 OUT D (out)

## LT1058A
designator U?
Quad JFET Input Precision High Speed Operational Amplifier
simulation model LT1058A (SUBCKT)
part A pins: 1 OUT A (out), 2 -IN A (in), 3 +IN A (in), 4 V+ (power), 11 V- (power)
part B pins: 4 V+ (power), 5 +IN B (in), 6 -IN B (in), 7 OUT B (out), 11 V- (power)
part C pins: 4 V+ (power), 8 OUT C (out), 9 -IN C (in), 10 +IN C (in), 11 V- (power)
part D pins: 4 V+ (power), 11 V- (power), 12 +IN D (in), 13 -IN D (in), 14 OUT D (out)

## LT1077
designator U?
Micropower, Single Supply Precision Operational Amplifier
simulation model LT1077 (SUBCKT)
pins: 1 TRIM, 2 -IN (in), 3 +IN (in), 4 V- (power), 6 OUT (out), 7 V+ (power), 8 TRIM

## LT1078
designator U?
Dual Micropower, Single Supply Precision Operational Amplfier
simulation model LT1078 (SUBCKT)
part A pins: 1 OUT A (out), 2 -IN A (in), 3 +IN A (in), 4 V- (power), 8 V+ (power)
part B pins: 4 V- (power), 5 +IN B (in), 6 -IN B (in), 7 OUT B (out), 8 V+ (power)

## LT1078A
designator U?
Dual Micropower, Single Supply Precision Operational Amplfier
simulation model LT1078A (SUBCKT)
part A pins: 1 OUT A (out), 2 -IN A (in), 3 +IN A (in), 4 V- (power), 8 V+ (power)
part B pins: 4 V- (power), 5 +IN B (in), 6 -IN B (in), 7 OUT B (out), 8 V+ (power)

## LT1079
designator U?
Quad Micropower, Single Supply Precision Operational Amplfier
simulation model LT1079 (SUBCKT)
part A pins: 1 OUT A (out), 2 -IN A (in), 3 +IN A (in), 4 V+ (power), 11 V- (power)
part B pins: 4 V+ (power), 5 +IN B (in), 6 -IN B (in), 7 OUT B (out), 11 V- (power)
part C pins: 4 V+ (power), 8 OUT C (out), 9 -IN C (in), 10 +IN C (in), 11 V- (power)
part D pins: 4 V+ (power), 11 V- (power), 12 +IN D (in), 13 -IN D (in), 14 OUT D (out)

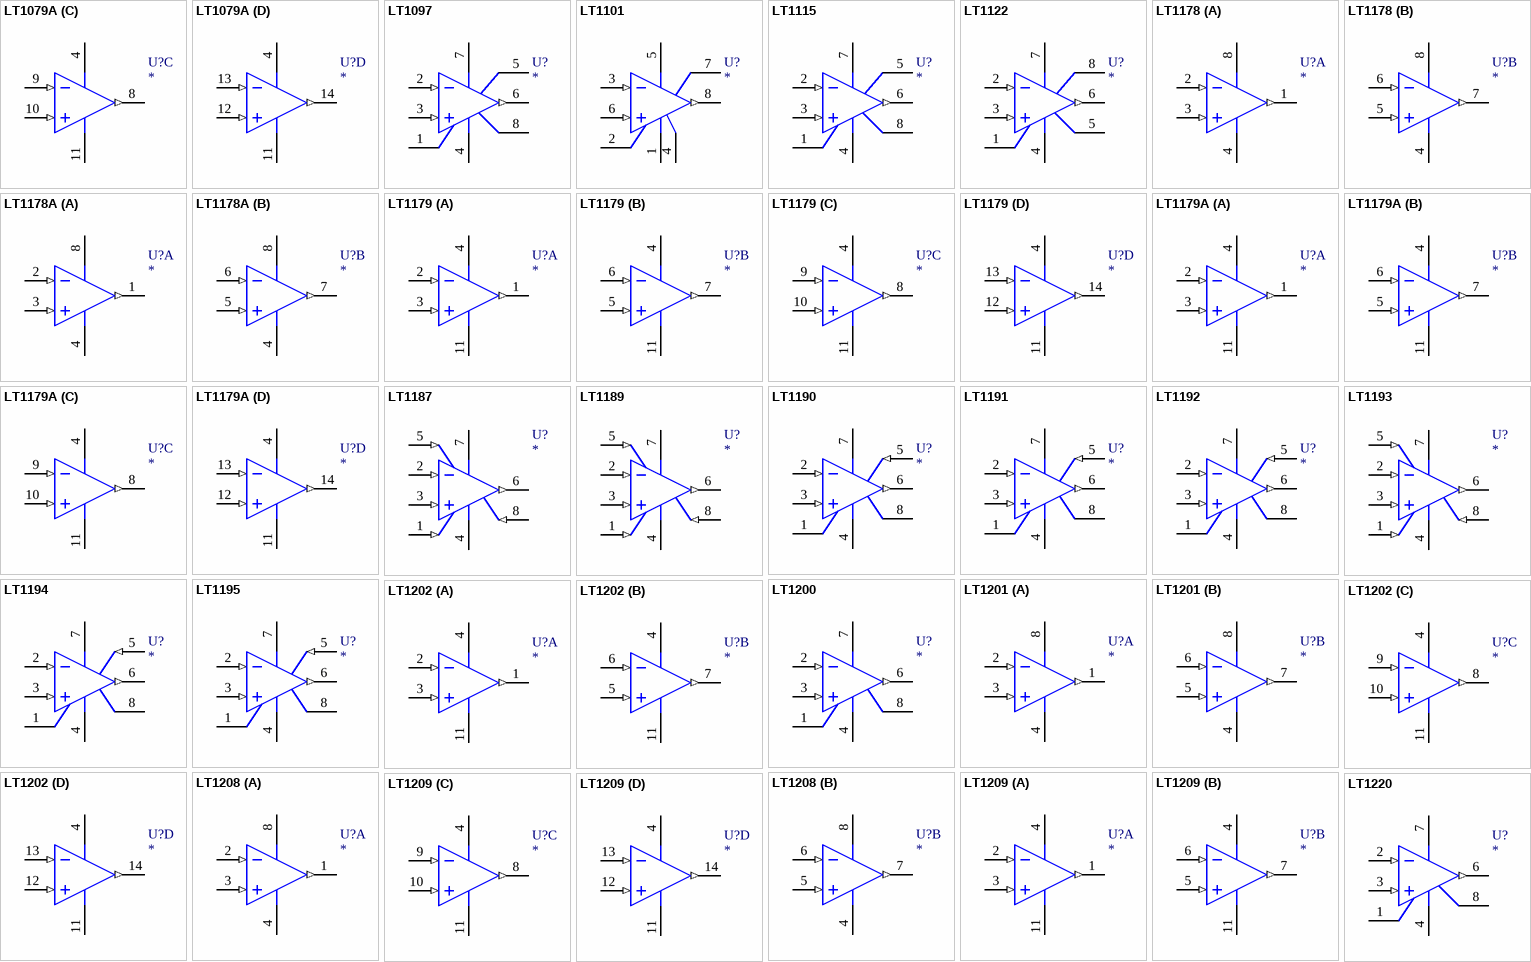
[diagram p13: symbols LT1079A to LT1220]

## LT1079A
designator U?
Quad Micropower, Single Supply Precision Operational Amplfier
simulation model LT1079A (SUBCKT)
part A pins: 1 OUT A (out), 2 -IN A (in), 3 +IN A (in), 4 V+ (power), 11 V- (power)
part B pins: 4 V+ (power), 5 +IN B (in), 6 -IN B (in), 7 OUT B (out), 11 V- (power)
part C pins: 4 V+ (power), 8 OUT C (out), 9 -IN C (in), 10 +IN C (in), 11 V- (power)
part D pins: 4 V+ (power), 11 V- (power), 12 +IN D (in), 13 -IN D (in), 14 OUT D (out)

## LT1097
designator U?
Low Cost, Low Power Precision Operational Amplifier
simulation model LT1097 (SUBCKT)
pins: 1 TRIM, 2 -IN (in), 3 +IN (in), 4 V- (power), 5 OVER COMP, 6 OUT (out), 7 V+ (power), 8 TRIM

## LT1101
designator U?
Precision, Micropower, Single Supply Instrumentation Amplifier (Fixed Gain=10 or 100)
simulation model LT1101 (SUBCKT)
pins: 1 GND (power), 2 REF G10, 3 IN- (in), 4 VEE (power), 5 VCC (power), 6 IN+ (in), 7 OUT G10, 8 OUT (out)

## LT1115
designator U?
Ultra-Low Noise, Low Distortion, Audio Operational Amplfier
simulation model LT1115 (SUBCKT)
pins: 1 TRIM, 2 -IN (in), 3 +IN (in), 4 V- (power), 5 OVER COMP, 6 OUT (out), 7 V+ (power), 8 TRIM

## LT1122
designator U?
Fast Settling, JFET Input Operational Amplifier
simulation model LT1122 (SUBCKT)
pins: 1 TRIM, 2 -IN (in), 3 +IN (in), 4 V- (power), 5 TRIM, 6 OUT (out), 7 V+ (power), 8 OVERCOMP

## LT1178
designator U?
17uA Max Dual, Single Supply, Precision Operational Amplifier
simulation model LT1178 (SUBCKT)
part A pins: 1 OUT A (out), 2 -IN A (in), 3 +IN A (in), 4 V- (power), 8 V+ (power)
part B pins: 4 V- (power), 5 +IN B (in), 6 -IN B (in), 7 OUT B (out), 8 V+ (power)

## LT1178A
designator U?
17uA Max Dual, Single Supply, Precision Operational Amplifier
simulation model LT1178A (SUBCKT)
part A pins: 1 OUT A (out), 2 -IN A (in), 3 +IN A (in), 4 V- (power), 8 V+ (power)
part B pins: 4 V- (power), 5 +IN B (in), 6 -IN B (in), 7 OUT B (out), 8 V+ (power)

## LT1179
designator U?
17uA Max Quad, Single Supply, Precision Operational Amplifier
simulation model LT1179 (SUBCKT)
part A pins: 1 OUT A (out), 2 -IN A (in), 3 +IN A (in), 4 V+ (power), 11 V- (power)
part B pins: 4 V+ (power), 5 +IN B (in), 6 -IN B (in), 7 OUT B (out), 11 V- (power)
part C pins: 4 V+ (power), 8 OUT C (out), 9 -IN C (in), 10 +IN C (in), 11 V- (power)
part D pins: 4 V+ (power), 11 V- (power), 12 +IN D (in), 13 -IN D (in), 14 OUT D (out)

## LT1179A
designator U?
17uA Max Quad, Single Supply, Precision Operational Amplifier
simulation model LT1179A (SUBCKT)
part A pins: 1 OUT A (out), 2 -IN A (in), 3 +IN A (in), 4 V+ (power), 11 V- (power)
part B pins: 4 V+ (power), 5 +IN B (in), 6 -IN B (in), 7 OUT B (out), 11 V- (power)
part C pins: 4 V+ (power), 8 OUT C (out), 9 -IN C (in), 10 +IN C (in), 11 V- (power)
part D pins: 4 V+ (power), 11 V- (power), 12 +IN D (in), 13 -IN D (in), 14 OUT D (out)

## LT1187
designator U?
Low Power Video Difference Amplifier
simulation model LT1187 (SUBCKT)
pins: 1 REF+ (in), 2 IN- (in), 3 IN+ (in), 4 VEE (power), 5 SD (in), 6 OUT (out), 7 VCC (power), 8 FB- (in)

## LT1189
designator U?
Low Power Video Difference Amplifier
simulation model LT1189 (SUBCKT)
pins: 1 REF+ (in), 2 IN- (in), 3 IN+ (in), 4 VEE (power), 5 SD (in), 6 OUT (out), 7 VCC (power), 8 FB- (in)

## LT1190
designator U?
Ultra High Speed Operational Amplifier
simulation model LT1190 (SUBCKT)
pins: 1 BAL, 2 IN- (in), 3 IN+ (in), 4 VEE (power), 5 SD (in), 6 OUT (out), 7 VCC (power), 8 BAL

## LT1191
designator U?
Ultra High Speed Operational Amplifier
simulation model LT1191 (SUBCKT)
pins: 1 BAL, 2 IN- (in), 3 IN+ (in), 4 VEE (power), 5 SD (in), 6 OUT (out), 7 VCC (power), 8 BAL

## LT1192
designator U?
Ultra High Speed Operational Amplifier
simulation model LT1192 (SUBCKT)
pins: 1 BAL, 2 IN- (in), 3 IN+ (in), 4 VEE (power), 5 SD (in), 6 OUT (out), 7 VCC (power), 8 BAL

## LT1193
designator U?
Video Difference Amplifier
simulation model LT1193 (SUBCKT)
pins: 1 REF+ (in), 2 IN- (in), 3 IN+ (in), 4 VEE (power), 5 SD (in), 6 OUT (out), 7 VCC (power), 8 FB- (in)

## LT1194
designator U?
Video Difference Amplifier
simulation model LT1194 (SUBCKT)
pins: 1 BAL, 2 IN- (in), 3 IN+ (in), 4 VEE (power), 5 REF (in), 6 OUT (out), 7 VCC (power), 8 BAL

## LT1195
designator U?
Low Power, High Speed Operational Amplifier
simulation model LT1195 (SUBCKT)
pins: 1 BAL, 2 IN- (in), 3 IN+ (in), 4 VEE (power), 5 SD (in), 6 OUT (out), 7 VCC (power), 8 BAL

## LT1200
designator U?
Low Power High Speed Operational Amplifier; Text Field6: Pin 5 is not connected
simulation model LT1200 (SUBCKT)
pins: 1 NULL, 2 IN- (in), 3 IN+ (in), 4 VEE (power), 6 OUT (out), 7 VCC (power), 8 NULL

## LT1201
designator U?
Dual 1mA, 12MHz, 50V/uS Op Amp
simulation model LT1201 (SUBCKT)
part A pins: 1 OUT (out), 2 IN- (in), 3 IN+ (in), 4 VEE (power), 8 VCC (power)
part B pins: 4 VEE (power), 5 IN+ (in), 6 IN- (in), 7 OUT (out), 8 VCC (power)

## LT1202
designator U?
Quad 1mA, 12MHz, 50V/uS Op Amp
simulation model LT1202 (SUBCKT)
part A pins: 1 OUT (out), 2 IN- (in), 3 IN+ (in), 4 VCC (power), 11 VEE (power)
part B pins: 4 VCC (power), 5 IN+ (in), 6 IN- (in), 7 OUT (out), 11 VEE (power)
part C pins: 4 VCC (power), 8 OUT (out), 9 IN- (in), 10 IN+ (in), 11 VEE (power)
part D pins: 4 VCC (power), 11 VEE (power), 12 IN+ (in), 13 IN- (in), 14 OUT (out)

## LT1208
designator U?
Dual 45MHz, 400V/uS Op Amp
simulation model LT1208 (SUBCKT)
part A pins: 1 OUT (out), 2 IN- (in), 3 IN+ (in), 4 VEE (power), 8 VCC (power)
part B pins: 4 VEE (power), 5 IN+ (in), 6 IN- (in), 7 OUT (out), 8 VCC (power)

## LT1209
designator U?
Quad 45MHz, 400V/uS Op Amp
simulation model LT1209 (SUBCKT)
part A pins: 1 OUT (out), 2 IN- (in), 3 IN+ (in), 4 VCC (power), 11 VEE (power)
part B pins: 4 VCC (power), 5 IN+ (in), 6 IN- (in), 7 OUT (out), 11 VEE (power)
part C pins: 4 VCC (power), 8 OUT (out), 9 IN- (in), 10 IN+ (in), 11 VEE (power)
part D pins: 4 VCC (power), 11 VEE (power), 12 IN+ (in), 13 IN- (in), 14 OUT (out)

## LT1220
designator U?
45MHz, 250V/µs Operational Amplifier
simulation model LT1220 (SUBCKT)
pins: 1 NULL, 2 -IN (in), 3 +IN (in), 4 V- (power), 6 OUT (out), 7 V+ (power), 8 NULL

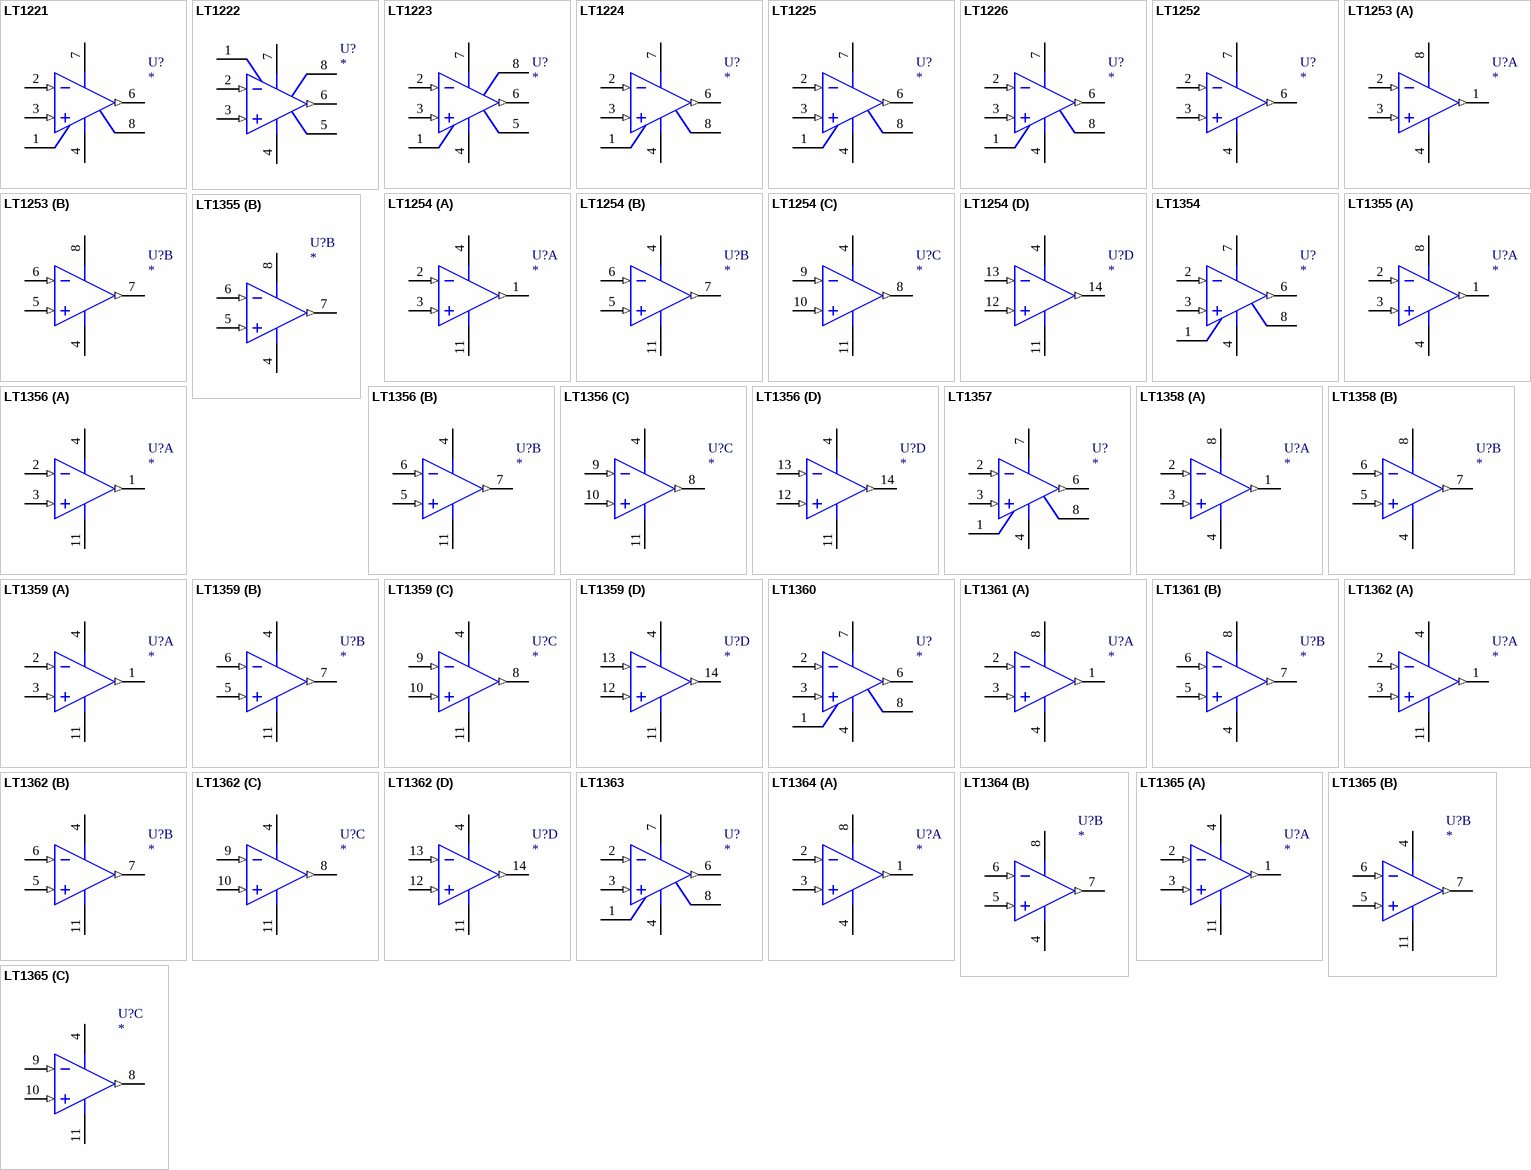
[diagram p14: symbols LT1221 to LT1365]

## LT1221
designator U?
Very High Speed Operational Amplifier; Text Field6: Pin 5 is not connected
simulation model LT1221 (SUBCKT)
pins: 1 NULL, 2 IN- (in), 3 IN+ (in), 4 VEE (power), 6 OUT (out), 7 VCC (power), 8 NULL

## LT1222
designator U?
Low Noise, Very High Speed Operational Amplifier
simulation model LT1222 (SUBCKT)
pins: 1 NULL, 2 IN- (in), 3 IN+ (in), 4 VEE (power), 5 COMP, 6 OUT (out), 7 VCC (power), 8 NULL

## LT1223
designator U?
100MHz Current Feedback Amplifier
simulation model LT1223 (SUBCKT)
pins: 1 NULL, 2 IN- (in), 3 IN+ (in), 4 VEE (power), 5 NULL, 6 OUT (out), 7 VCC (power), 8 SD

## LT1224
designator U?
Very High Speed Operational Amplifier; Text Field6: Pin 5 is not connected
simulation model LT1224 (SUBCKT)
pins: 1 NULL, 2 IN- (in), 3 IN+ (in), 4 VEE (power), 6 OUT (out), 7 VCC (power), 8 NULL

## LT1225
designator U?
Very High Speed Operational Amplifier; Text Field6: Pin 5 is not connected
footprint DIP-8
simulation model LT1225 (SUBCKT)
pins: 1 NULL, 2 IN- (in), 3 IN+ (in), 4 VEE (power), 6 OUT (out), 7 VCC (power), 8 NULL

## LT1226
designator U?
Low Noise Very High Speed Operational Amplifier; Text Field6: Pin 5 is not connected
simulation model LT1226 (SUBCKT)
pins: 1 NULL, 2 IN- (in), 3 IN+ (in), 4 VEE (power), 6 OUT (out), 7 VCC (power), 8 NULL

## LT1252
designator U?
Low Cost Video Amplifier; Text Field6: Pins 1, 5, and 8 are not connected
simulation model LT1252 (SUBCKT)
pins: 2 IN- (in), 3 IN+ (in), 4 VEE (power), 6 OUT (out), 7 VCC (power)

## LT1253
designator U?
Low Cost Dual Video Amplifier
simulation model LT1253 (SUBCKT)
part A pins: 1 OUT (out), 2 IN- (in), 3 IN+ (in), 4 VEE (power), 8 VCC (power)
part B pins: 4 VEE (power), 5 IN+ (in), 6 IN- (in), 7 OUT (out), 8 VCC (power)

## LT1254
designator U?
Low Cost Quad Video Amplifier
simulation model LT1254 (SUBCKT)
part A pins: 1 OUT (out), 2 IN- (in), 3 IN+ (in), 4 VCC (power), 11 VEE (power)
part B pins: 4 VCC (power), 5 IN+ (in), 6 IN- (in), 7 OUT (out), 11 VEE (power)
part C pins: 4 VCC (power), 8 OUT (out), 9 IN- (in), 10 IN+ (in), 11 VEE (power)
part D pins: 4 VCC (power), 11 VEE (power), 12 IN+ (in), 13 IN- (in), 14 OUT (out)

## LT1354
designator U?
12MHz, 400V/uS Op Amp; Text Field6: Pin 5 is not connected
simulation model LT1354 (SUBCKT)
pins: 1 NULL, 2 IN- (in), 3 IN+ (in), 4 VEE (power), 6 OUT (out), 7 VCC (power), 8 NULL

## LT1355
designator U?
Dual 12MHz, 400V/uS Op Amp
simulation model LT1355 (SUBCKT)
part A pins: 1 OUT (out), 2 IN- (in), 3 IN+ (in), 4 VEE (power), 8 VCC (power)
part B pins: 4 VEE (power), 5 IN+ (in), 6 IN- (in), 7 OUT (out), 8 VCC (power)

## LT1356
designator U?
Quad 12MHz, 400V/uS Op Amp
simulation model LT1356 (SUBCKT)
part A pins: 1 OUT (out), 2 IN- (in), 3 IN+ (in), 4 VCC (power), 11 VEE (power)
part B pins: 4 VCC (power), 5 IN+ (in), 6 IN- (in), 7 OUT (out), 11 VEE (power)
part C pins: 4 VCC (power), 8 OUT (out), 9 IN- (in), 10 IN+ (in), 11 VEE (power)
part D pins: 4 VCC (power), 11 VEE (power), 12 IN+ (in), 13 IN- (in), 14 OUT (out)

## LT1357
designator U?
25MHz, 600V/uS Op Amp; Text Field6: Pin 5 is not connected
simulation model LT1357 (SUBCKT)
pins: 1 NULL, 2 IN- (in), 3 IN+ (in), 4 VEE (power), 6 OUT (out), 7 VCC (power), 8 NULL

## LT1358
designator U?
Dual 25MHz, 600V/uS Op Amp
simulation model LT1358 (SUBCKT)
part A pins: 1 OUT (out), 2 IN- (in), 3 IN+ (in), 4 VEE (power), 8 VCC (power)
part B pins: 4 VEE (power), 5 IN+ (in), 6 IN- (in), 7 OUT (out), 8 VCC (power)

## LT1359
designator U?
Quad 25MHz, 600V/uS Op Amp
simulation model LT1359 (SUBCKT)
part A pins: 1 OUT (out), 2 IN- (in), 3 IN+ (in), 4 VCC (power), 11 VEE (power)
part B pins: 4 VCC (power), 5 IN+ (in), 6 IN- (in), 7 OUT (out), 11 VEE (power)
part C pins: 4 VCC (power), 8 OUT (out), 9 IN- (in), 10 IN+ (in), 11 VEE (power)
part D pins: 4 VCC (power), 11 VEE (power), 12 IN+ (in), 13 IN- (in), 14 OUT (out)

## LT1360
designator U?
50MHz, 800V/uS Op Amp; Text Field6: Pin 5 is not connected
simulation model LT1360 (SUBCKT)
pins: 1 NULL, 2 IN- (in), 3 IN+ (in), 4 VEE (power), 6 OUT (out), 7 VCC (power), 8 NULL

## LT1361
designator U?
Dual 50MHz, 800V/uS Op Amp
simulation model LT1361 (SUBCKT)
part A pins: 1 OUT (out), 2 IN- (in), 3 IN+ (in), 4 VEE (power), 8 VCC (power)
part B pins: 4 VEE (power), 5 IN+ (in), 6 IN- (in), 7 OUT (out), 8 VCC (power)

## LT1362
designator U?
Quad 50MHz, 800V/uS Op Amp
simulation model LT1362 (SUBCKT)
part A pins: 1 OUT (out), 2 IN- (in), 3 IN+ (in), 4 VCC (power), 11 VEE (power)
part B pins: 4 VCC (power), 5 IN+ (in), 6 IN- (in), 7 OUT (out), 11 VEE (power)
part C pins: 4 VCC (power), 8 OUT (out), 9 IN- (in), 10 IN+ (in), 11 VEE (power)
part D pins: 4 VCC (power), 11 VEE (power), 12 IN+ (in), 13 IN- (in), 14 OUT (out)

## LT1363
designator U?
70MHz, 1000V/uS Op Amp; Text Field6: Pin 5 is not connected
simulation model LT1363 (SUBCKT)
pins: 1 NULL, 2 IN- (in), 3 IN+ (in), 4 VEE (power), 6 OUT (out), 7 VCC (power), 8 NULL

## LT1364
designator U?
Dual 70MHz, 1000V/uS Op Amp
footprint DIP-8
simulation model LT1364 (SUBCKT)
part A pins: 1 OUT (out), 2 IN- (in), 3 IN+ (in), 4 VEE (power), 8 VCC (power)
part B pins: 4 VEE (power), 5 IN+ (in), 6 IN- (in), 7 OUT (out), 8 VCC (power)

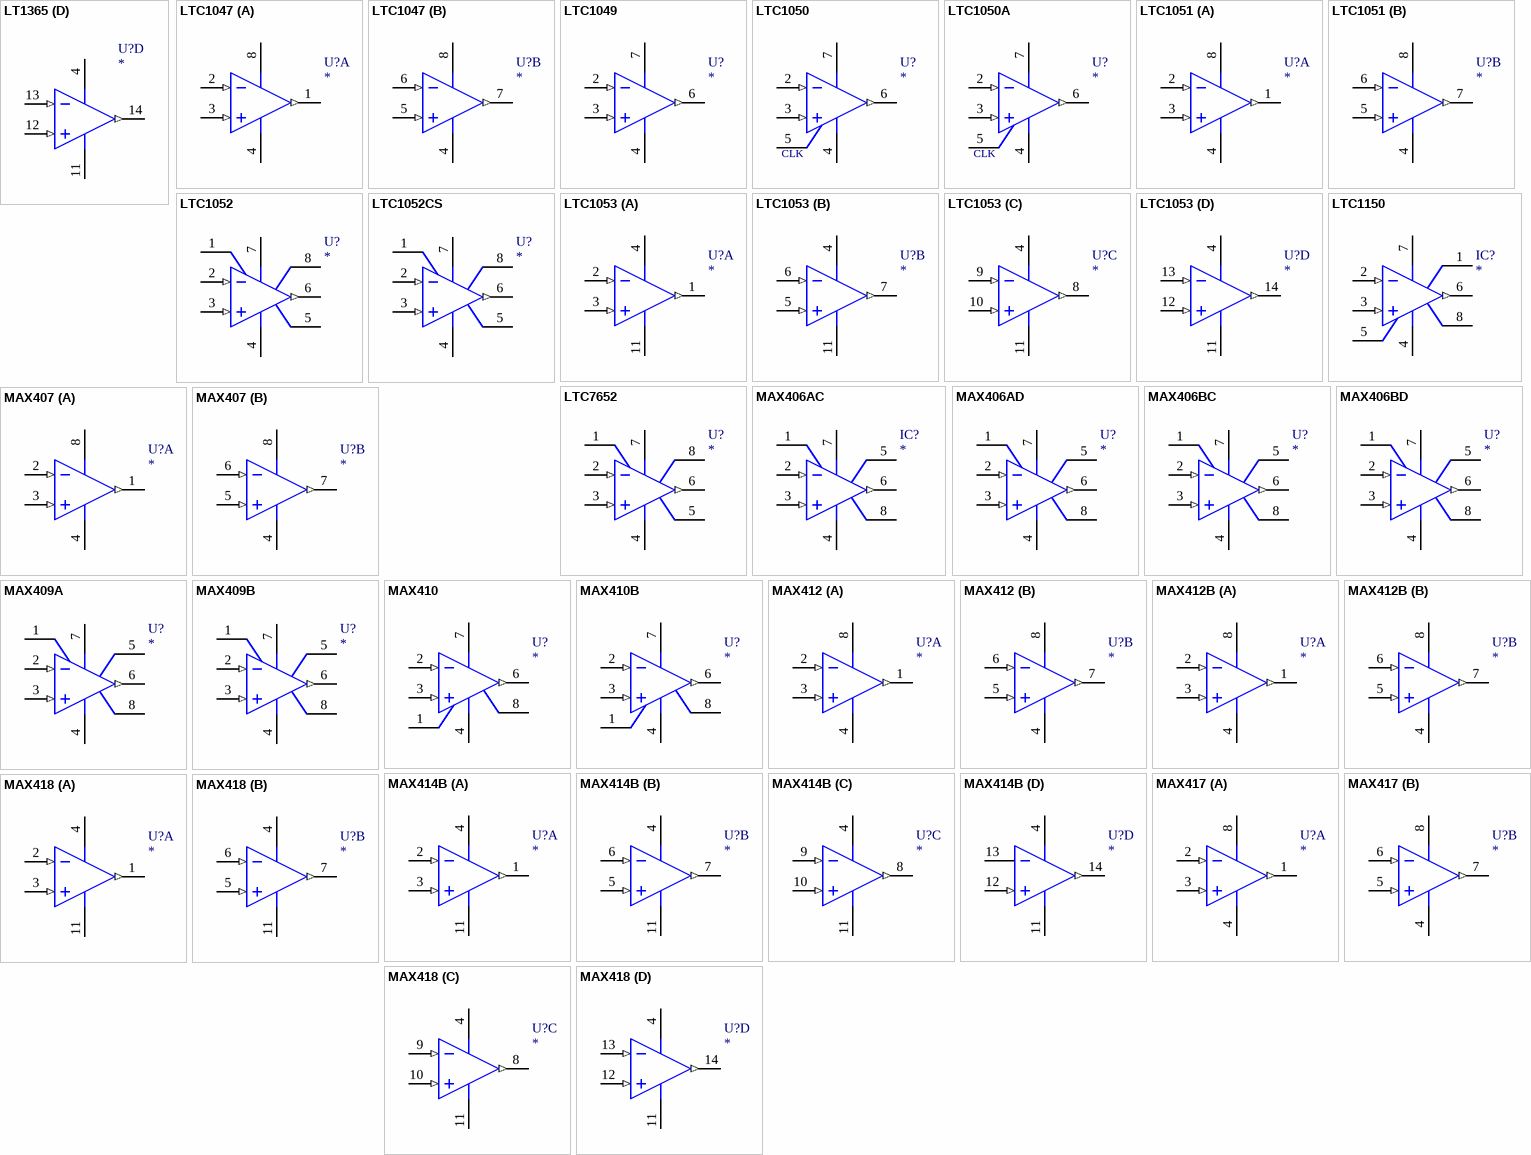
[diagram p15: symbols LT1365 to MAX418]

## LT1365
designator U?
Quad 70MHz, 1000V/uS Op Amp
simulation model LT1365 (SUBCKT)
part A pins: 1 OUT (out), 2 IN- (in), 3 IN+ (in), 4 VCC (power), 11 VEE (power)
part B pins: 4 VCC (power), 5 IN+ (in), 6 IN- (in), 7 OUT (out), 11 VEE (power)
part C pins: 4 VCC (power), 8 OUT (out), 9 IN- (in), 10 IN+ (in), 11 VEE (power)
part D pins: 4 VCC (power), 11 VEE (power), 12 IN+ (in), 13 IN- (in), 14 OUT (out)

## LTC1047
designator U?
Dual Micropower Chopper Stabilized Operational Amplifier with Internal Capacitor
simulation model LTC1047 (SUBCKT)
part A pins: 1 OUT (out), 2 IN- (in), 3 IN+ (in), 4 VEE (power), 8 VCC (power)
part B pins: 4 VEE (power), 5 IN+ (in), 6 IN- (in), 7 OUT (out), 8 VCC (power)

## LTC1049
designator U?
Low Power Chopper Stabilized Operational Amplifier with Internal Capacitors
footprint DIP-8
simulation model LTC1049 (SUBCKT)
pins: 2 -IN (in), 3 +IN (in), 4 V- (power), 6 OUT (out), 7 V+ (power)

## LTC1050
designator U?
Precision Chopper Stabilized Operational Amplifier with Internal Capacitors
footprint DIP-8
simulation model LTC1050 (SUBCKT)
pins: 2 -IN (in), 3 +IN (in), 4 V- (power), 5 EXT CLOCK INPUT, 6 OUT (out), 7 V+ (power)
text: CLK

## LTC1050A
designator U?
Precision Chopper Stabilized Operational Amplifier with Internal Capacitors
footprint DIP-8
simulation model LTC1050A (SUBCKT)
pins: 2 -IN (in), 3 +IN (in), 4 V- (power), 5 EXT CLOCK INPUT, 6 OUT (out), 7 V+ (power)
text: CLK

## LTC1051
designator U?
Dual Precision Chopper Stabilized Operational Amplifiers with Internal Capacitors
footprint DIP-8
simulation model LTC1051 (SUBCKT)
part A pins: 1 OUT A (out), 2 -IN A (in), 3 +IN A (in), 4 V- (power), 8 V+ (power)
part B pins: 4 V- (power), 5 +IN B (in), 6 -IN B (in), 7 OUT B (out), 8 V+ (power)

## LTC1052
designator U?
Chopper-Stabilized Operational Amplifier (CSOA)
simulation model LTC1052 (SUBCKT)
pins: 1 EXTA, 2 -IN (in), 3 +IN (in), 4 V- (power), 5 OUTPUT CLAMP, 6 OUT (out), 7 V+ (power), 8 EXTB

## LTC1052CS
designator U?
Chopper-Stabilized Operational Amplifier (CSOA)
simulation model LTC1052CS (SUBCKT)
pins: 1 EXTA, 2 -IN (in), 3 +IN (in), 4 V- (power), 5 OUTPUT CLAMP, 6 OUT (out), 7 V+ (power), 8 EXTB

## LTC1053
designator U?
Quad Precision Chopper Stabilized Operational Amplifiers with Internal Capacitors
simulation model LTC1053 (SUBCKT)
part A pins: 1 OUT A (out), 2 -IN A (in), 3 +IN A (in), 4 V+ (power), 11 V- (power)
part B pins: 4 V+ (power), 5 +IN B (in), 6 -IN B (in), 7 OUT B (out), 11 V- (power)
part C pins: 4 V+ (power), 8 OUT C (out), 9 -IN C (in), 10 +IN C (in), 11 V- (power)
part D pins: 4 V+ (power), 11 V- (power), 12 +IN D (in), 13 -IN D (in), 14 OUT D (out)

## LTC1150
designator IC?
?5V Chopper Stabilized Operational Amplifier with Internal Capacitors
footprint DIP-8
simulation model LTC1150 (SUBCKT)
pins: 1 SUPPLY, 2 -IN (in), 3 +IN (in), 4 V- (power), 5 EXT CLOCK IN, 6 OUT (out), 7 V+ (power), 8 CLOCK OUT

## LTC7652
designator U?
Chopper-Stabilized Operational Amplifier (CSOA )
simulation model LTC7652 (SUBCKT)
pins: 1 EXTA, 2 -IN (in), 3 +IN (in), 4 V- (power), 5 OUTPUT CLAMP, 6 OUT (out), 7 V+ (power), 8 EXTB

## MAX406AC
designator IC?
1.2 Micro A Max, Single-Supply Op Amp
footprint DIP-8
simulation model MAX406AC (SUBCKT)
pins: 1 NULL, 2 IN- (in), 3 IN+ (in), 4 VEE (power), 5 NULL, 6 OUT (out), 7 VCC (power), 8 BW

## MAX406AD
designator U?
1.2 Micro A Max, Single-Supply Op Amp
simulation model MAX406AD (SUBCKT)
pins: 1 NULL, 2 IN- (in), 3 IN+ (in), 4 VEE (power), 5 NULL, 6 OUT (out), 7 VCC (power), 8 BW

## MAX406BC
designator U?
1.2 Micro A Max, Single-Supply Op Amp
simulation model MAX406BC (SUBCKT)
pins: 1 NULL, 2 IN- (in), 3 IN+ (in), 4 VEE (power), 5 NULL, 6 OUT (out), 7 VCC (power), 8 BW

## MAX406BD
designator U?
1.2 Micro A Max, Single-Supply Op Amp
simulation model MAX406BD (SUBCKT)
pins: 1 NULL, 2 IN- (in), 3 IN+ (in), 4 VEE (power), 5 NULL, 6 OUT (out), 7 VCC (power), 8 BW